# Altium schematic symbol library ML605Library.SCHLIB: 148 symbols (part 1 of 2)
Pins are listed as number, name and electrical type; pins without a type are passive.

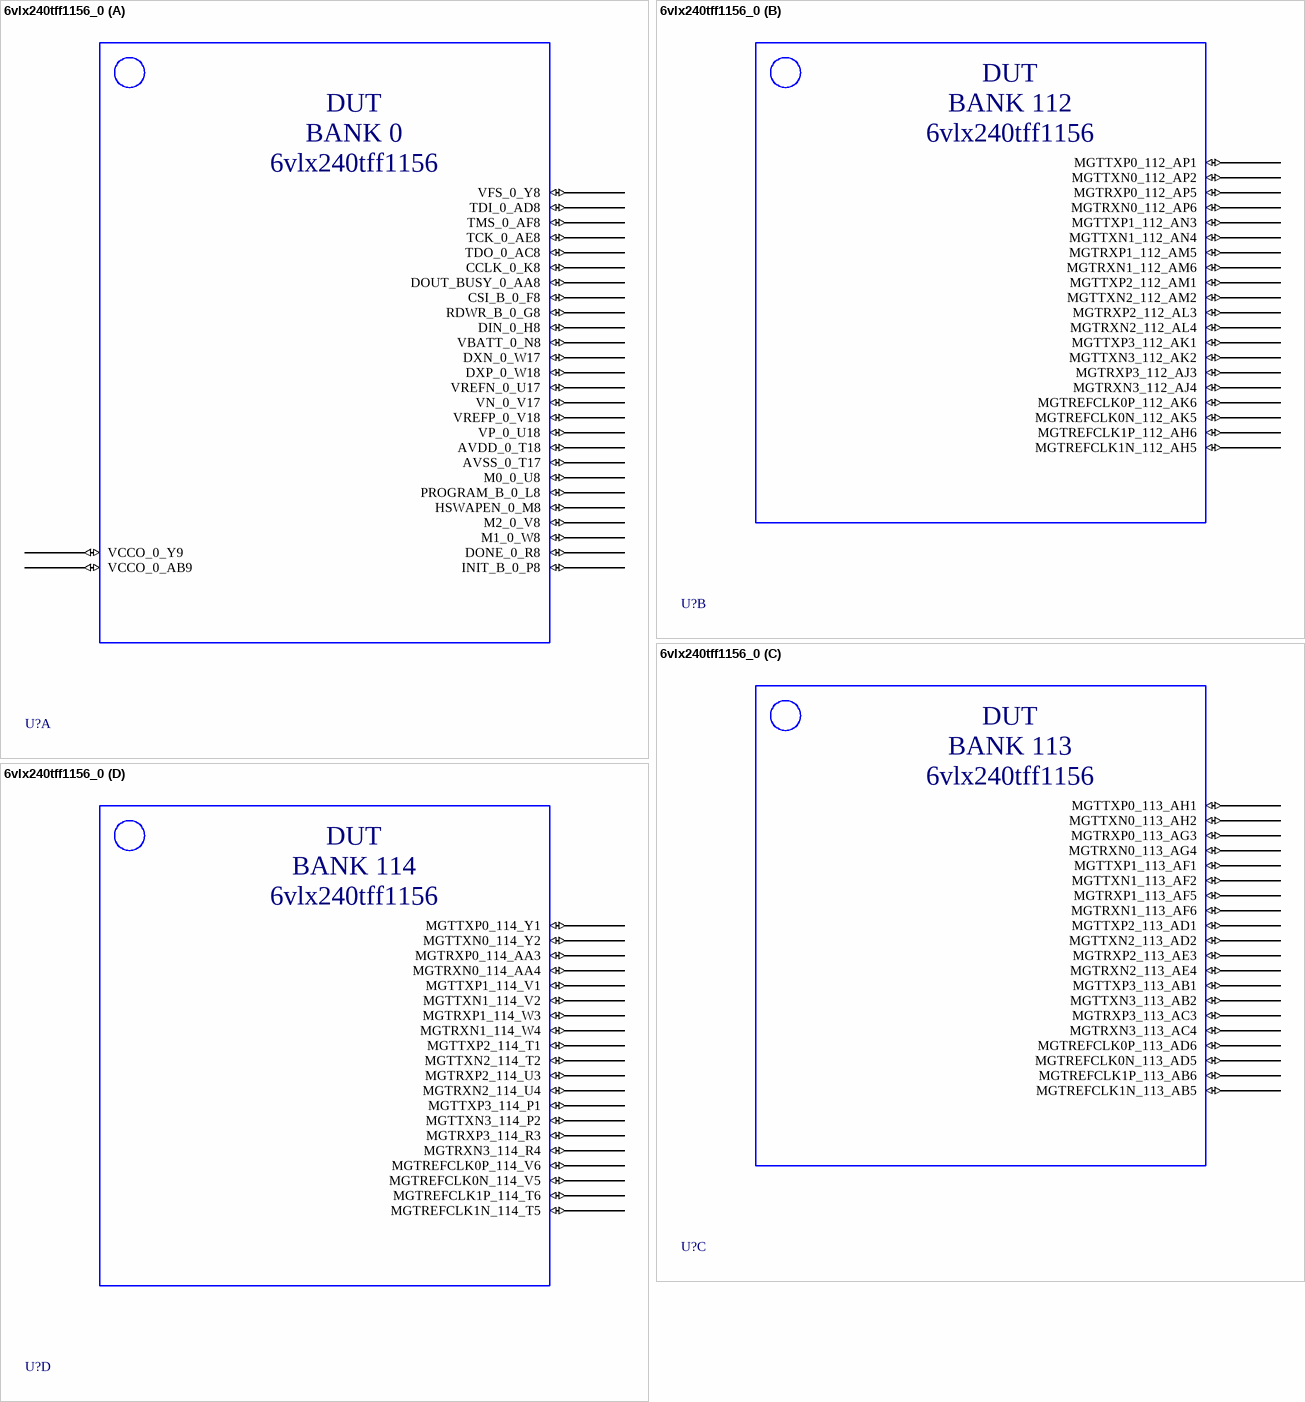
[diagram p0: symbol 6vlx240tff1156_0]

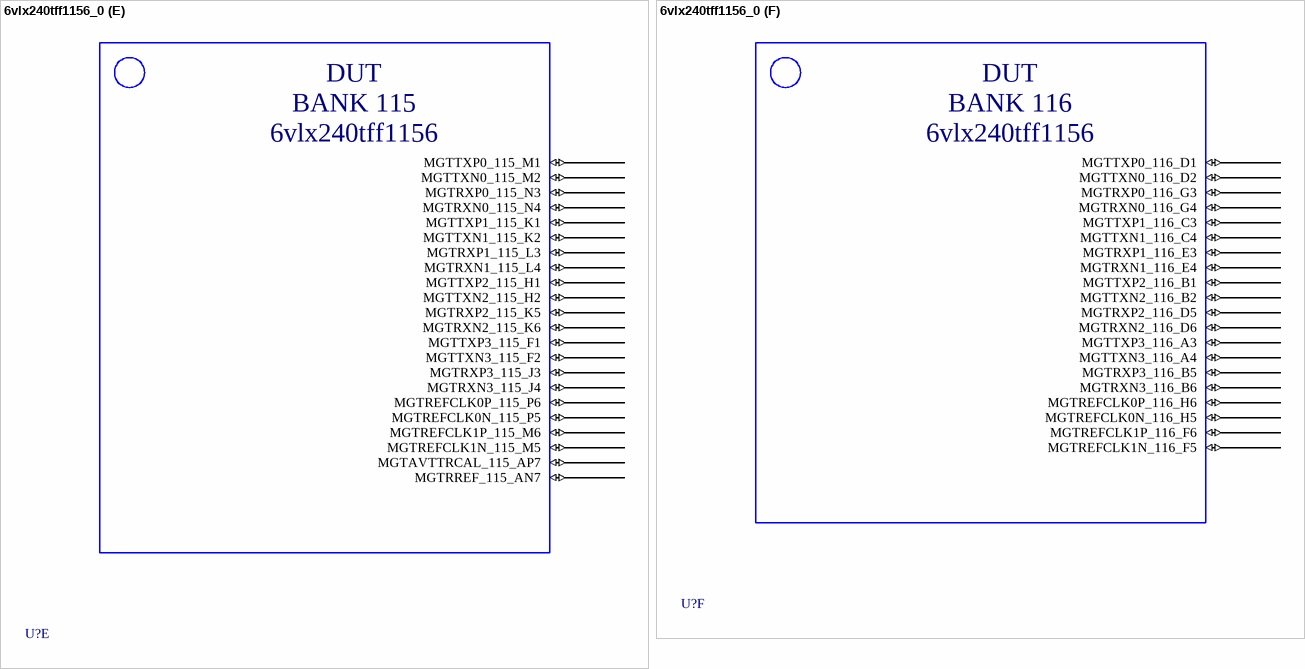
[diagram p1: symbol 6vlx240tff1156_0]

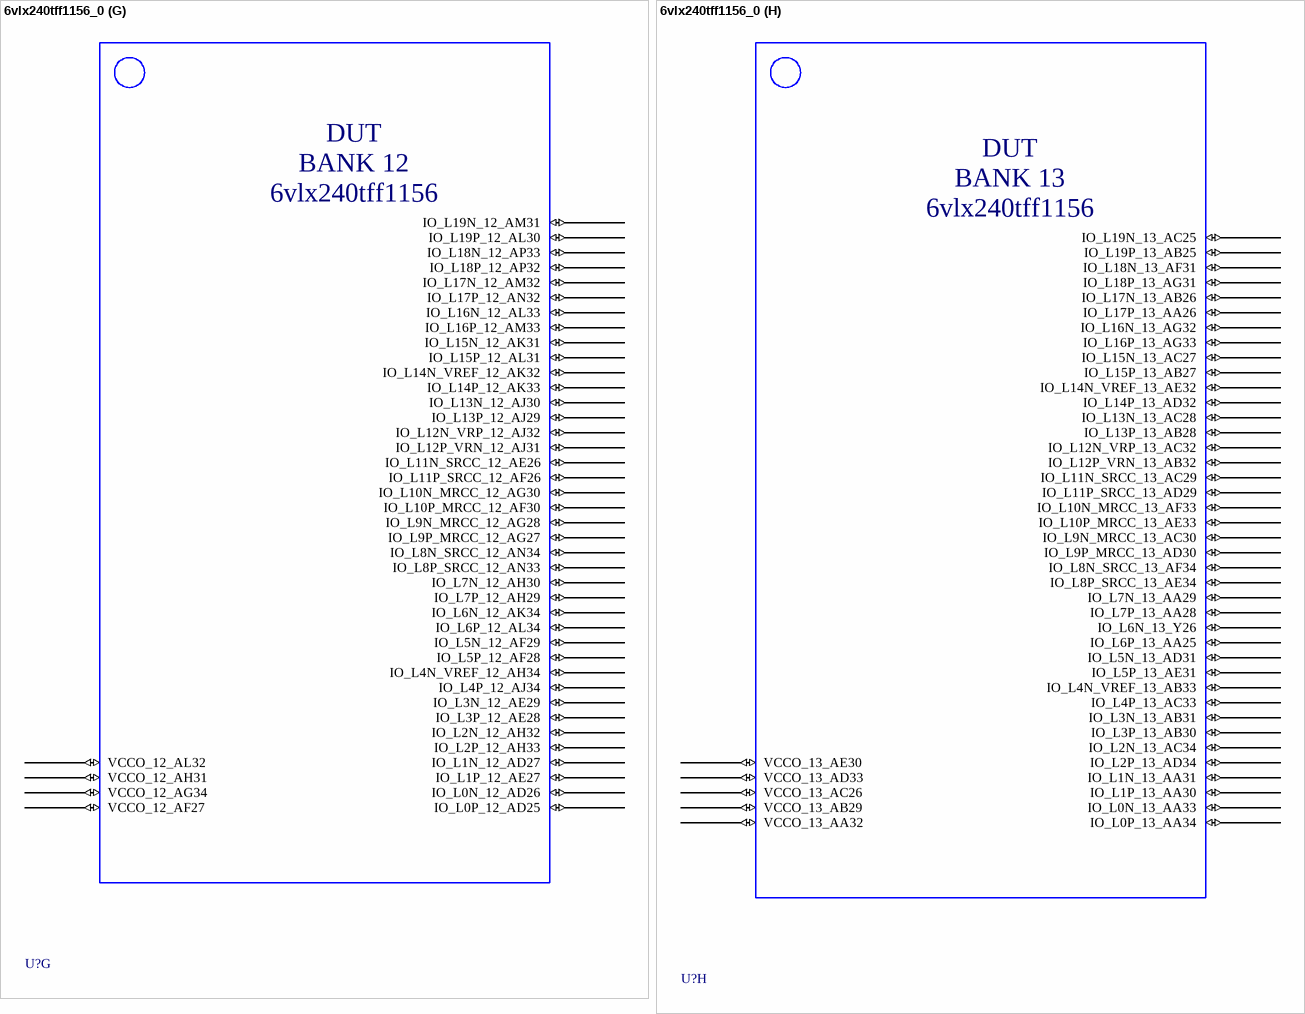
[diagram p2: symbol 6vlx240tff1156_0]

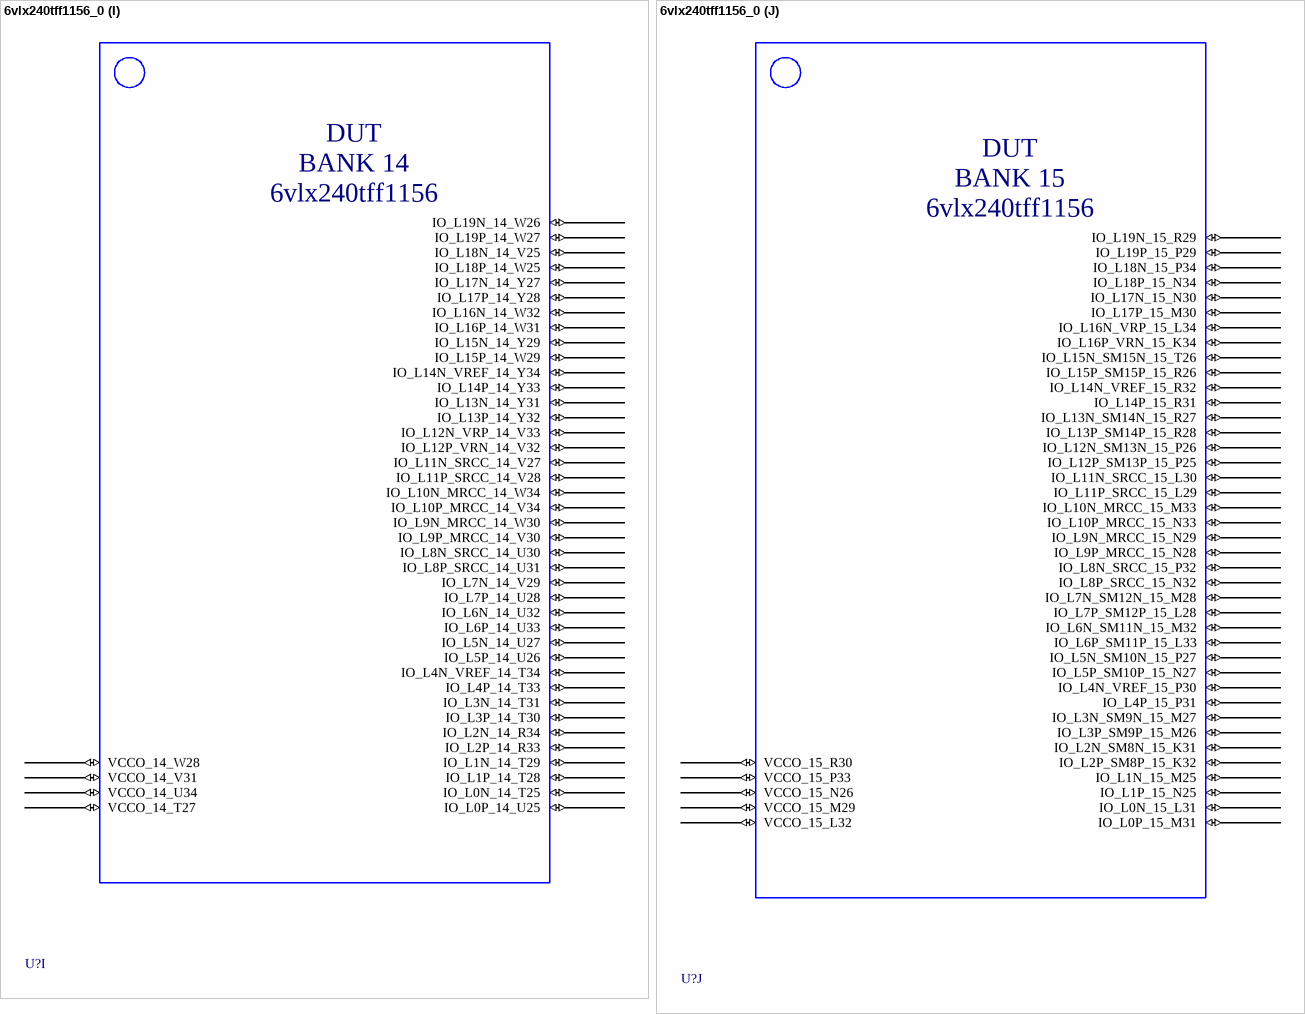
[diagram p3: symbol 6vlx240tff1156_0]

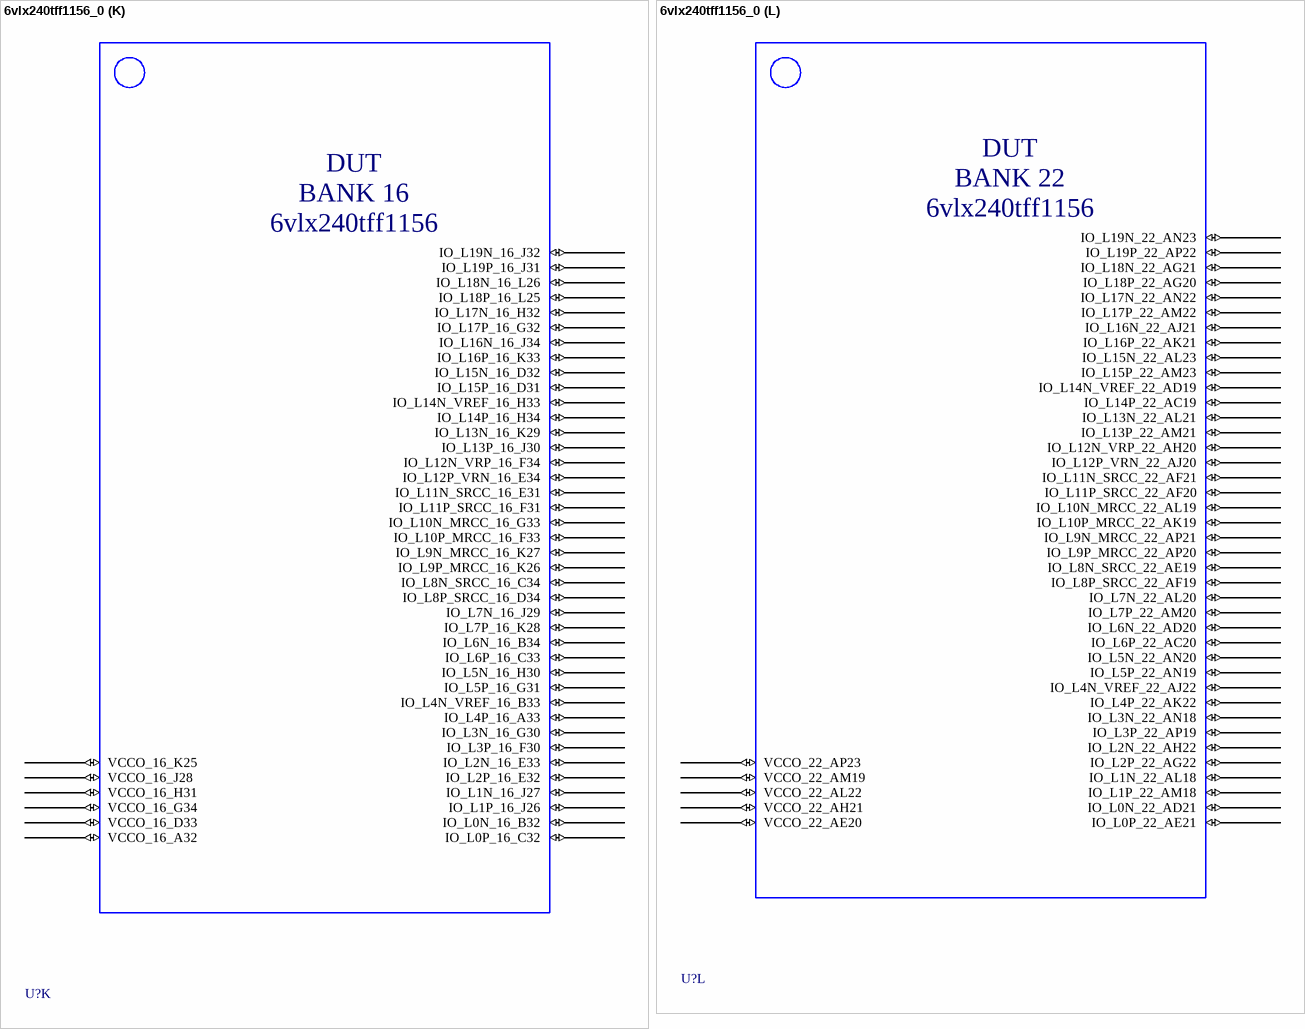
[diagram p4: symbol 6vlx240tff1156_0]

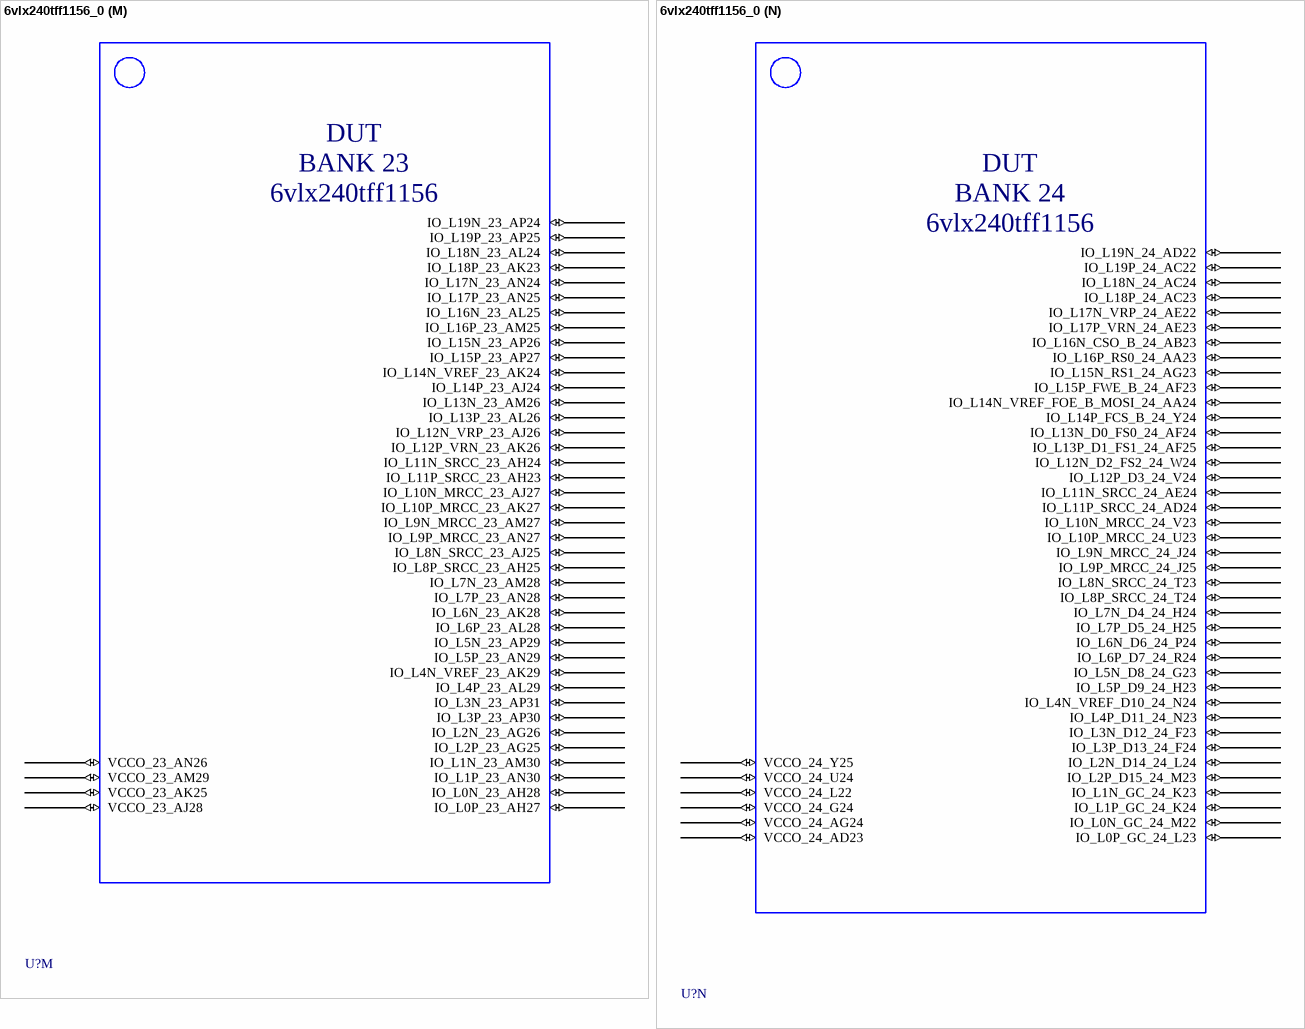
[diagram p5: symbol 6vlx240tff1156_0]

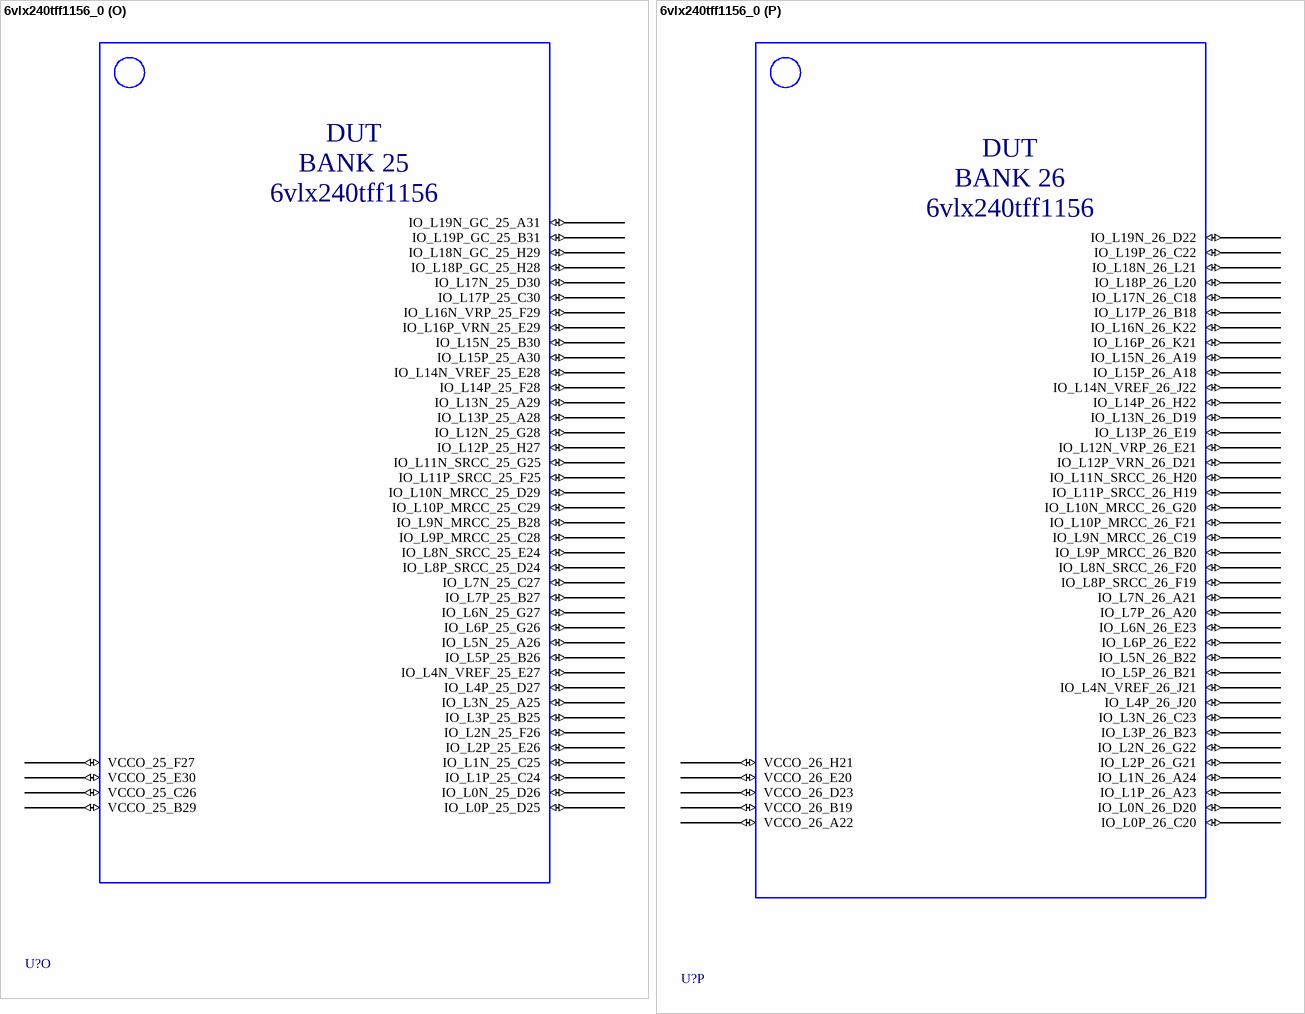
[diagram p6: symbol 6vlx240tff1156_0]

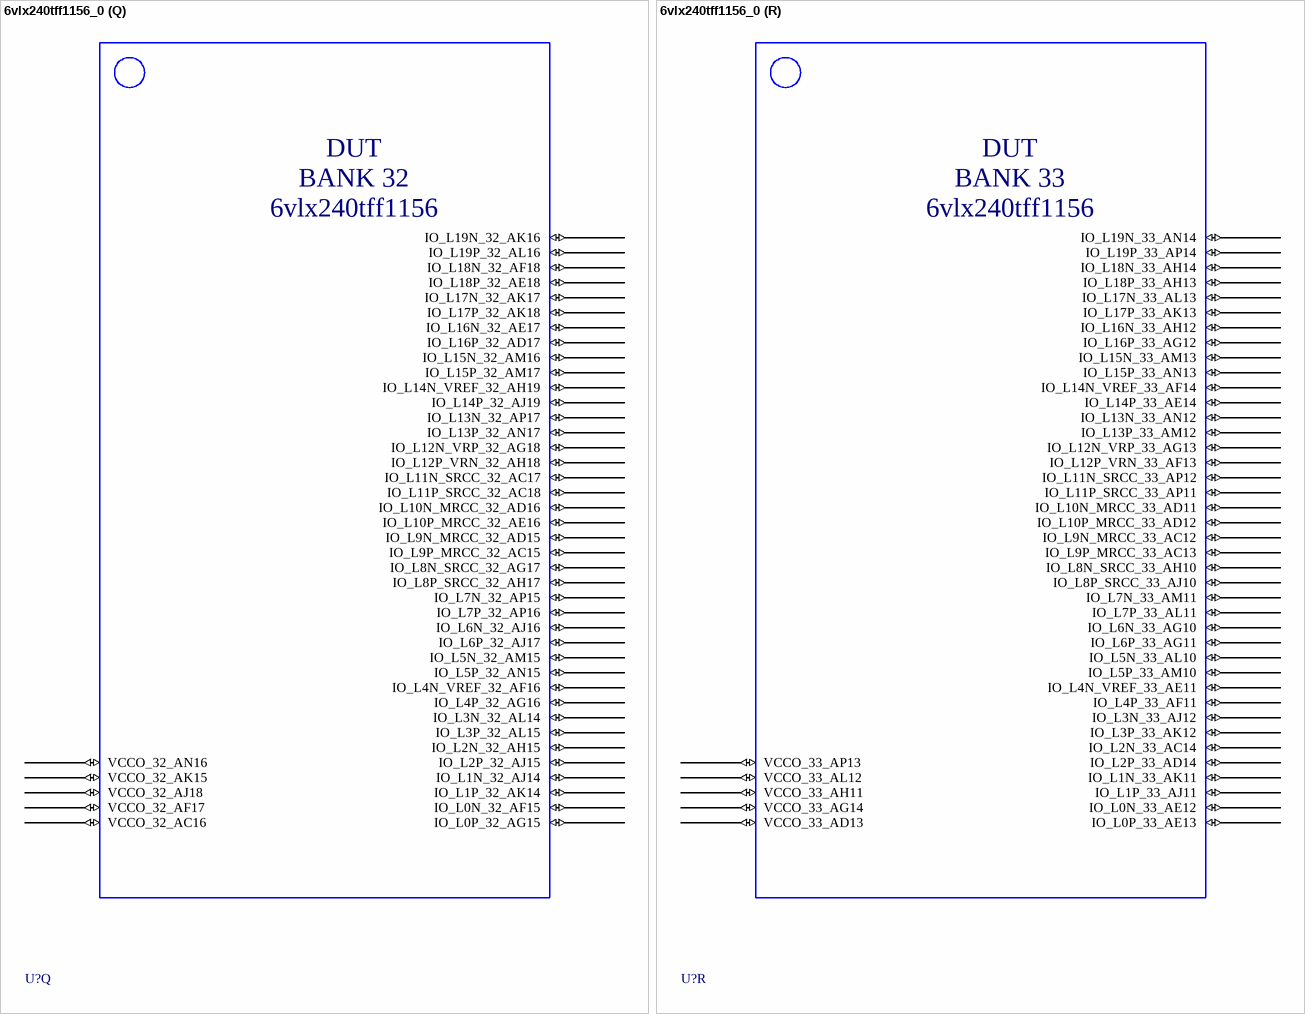
[diagram p7: symbol 6vlx240tff1156_0]

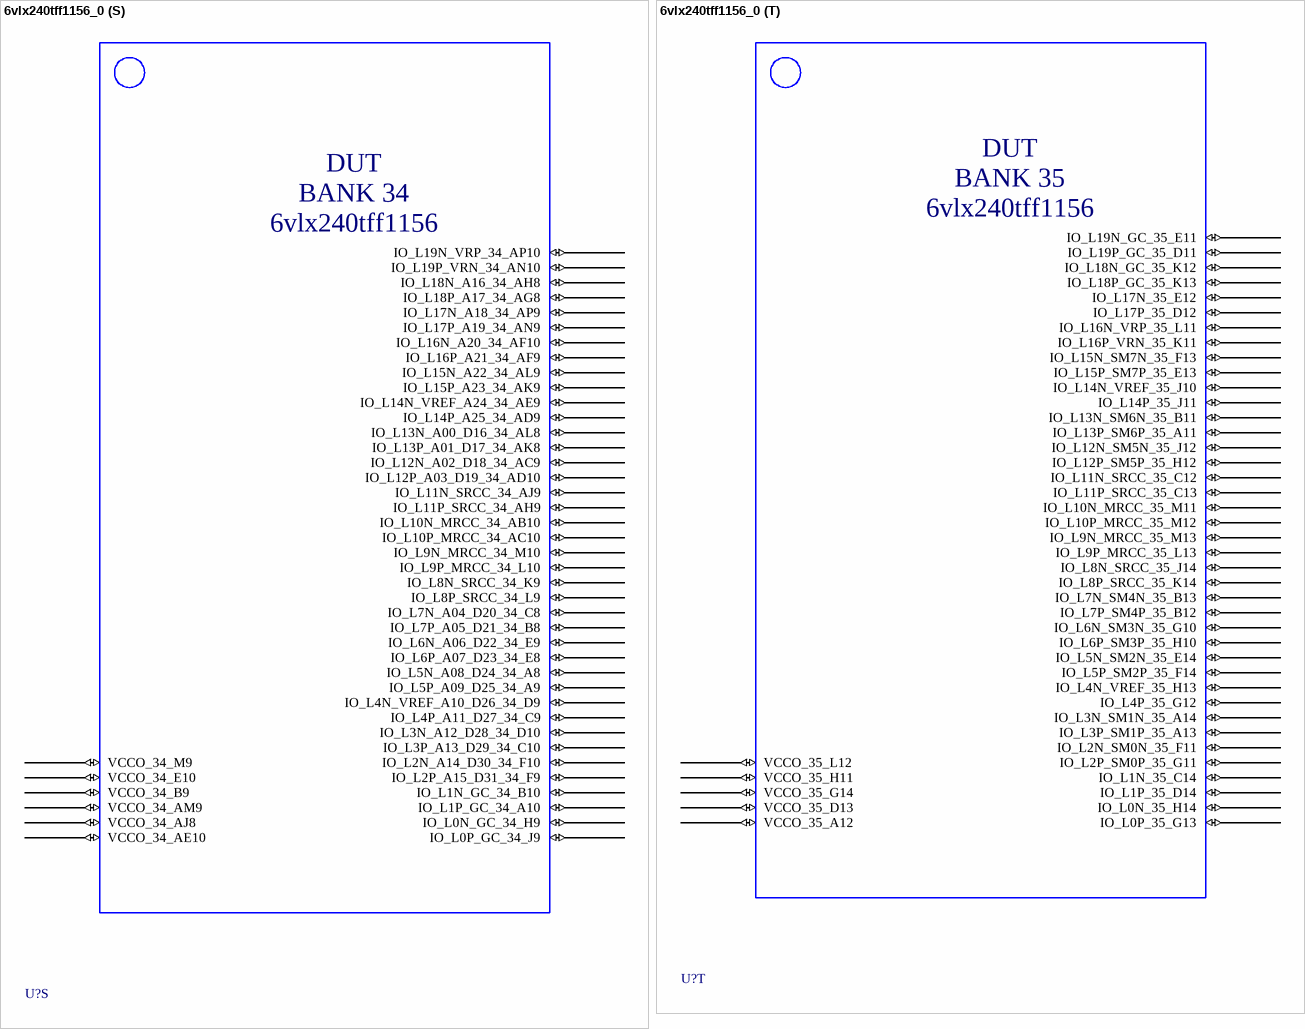
[diagram p8: symbol 6vlx240tff1156_0]

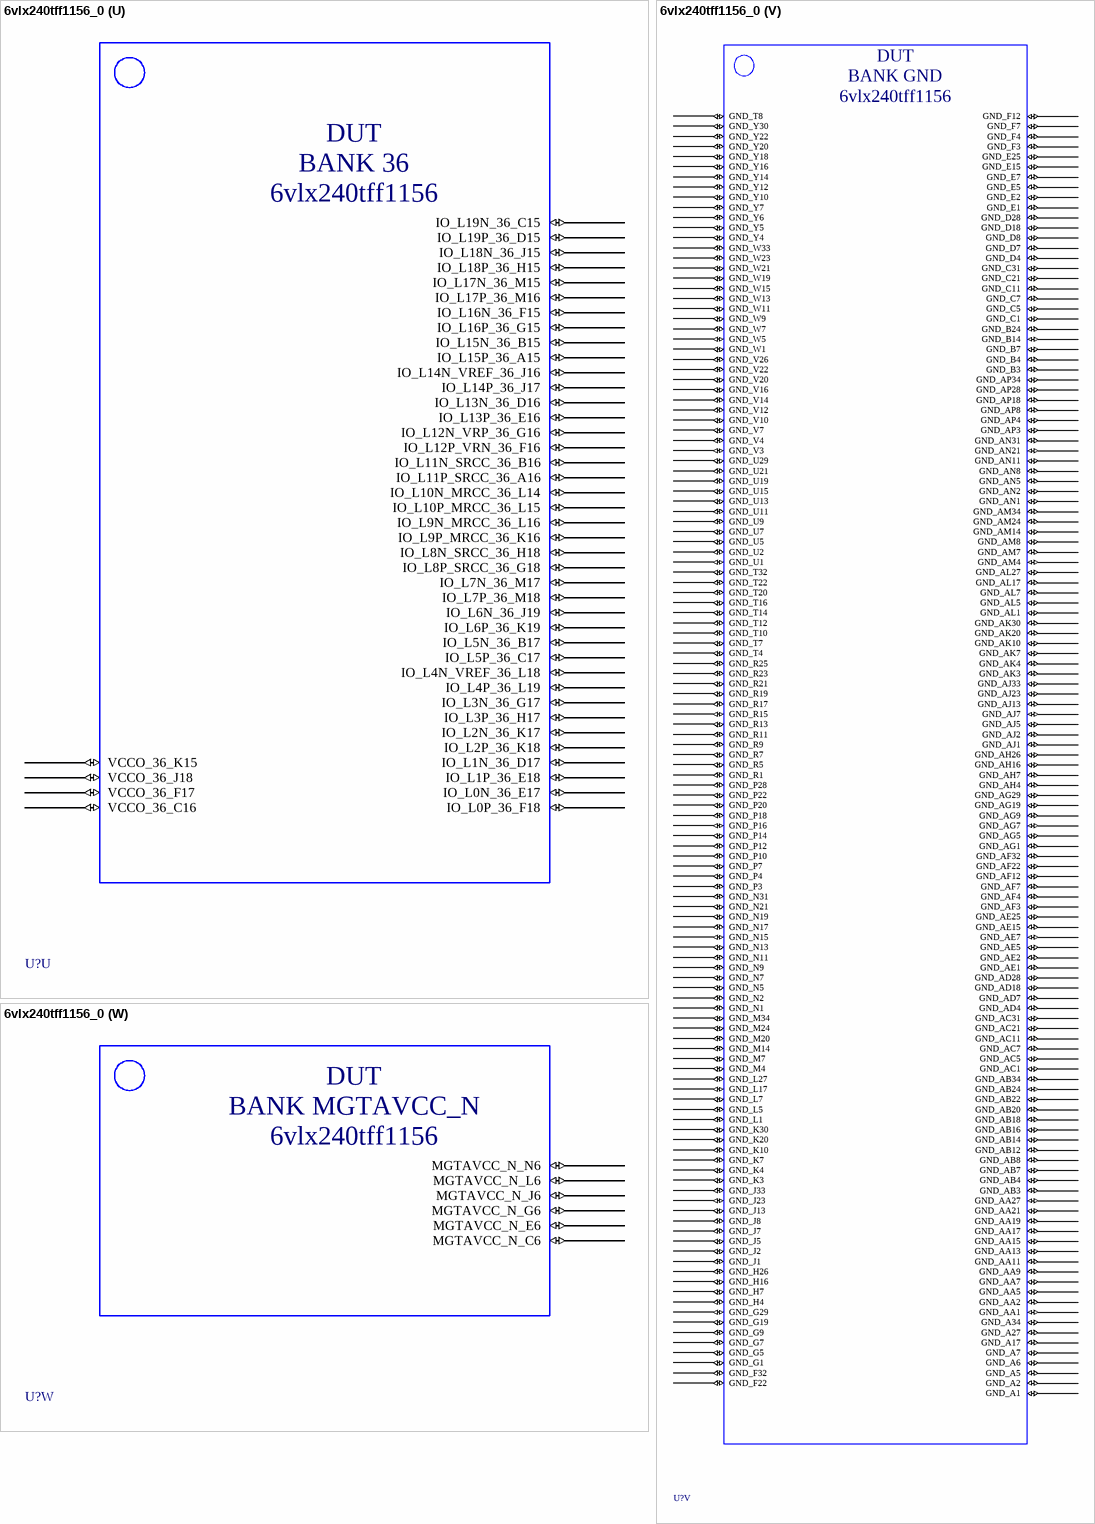
[diagram p9: symbol 6vlx240tff1156_0]

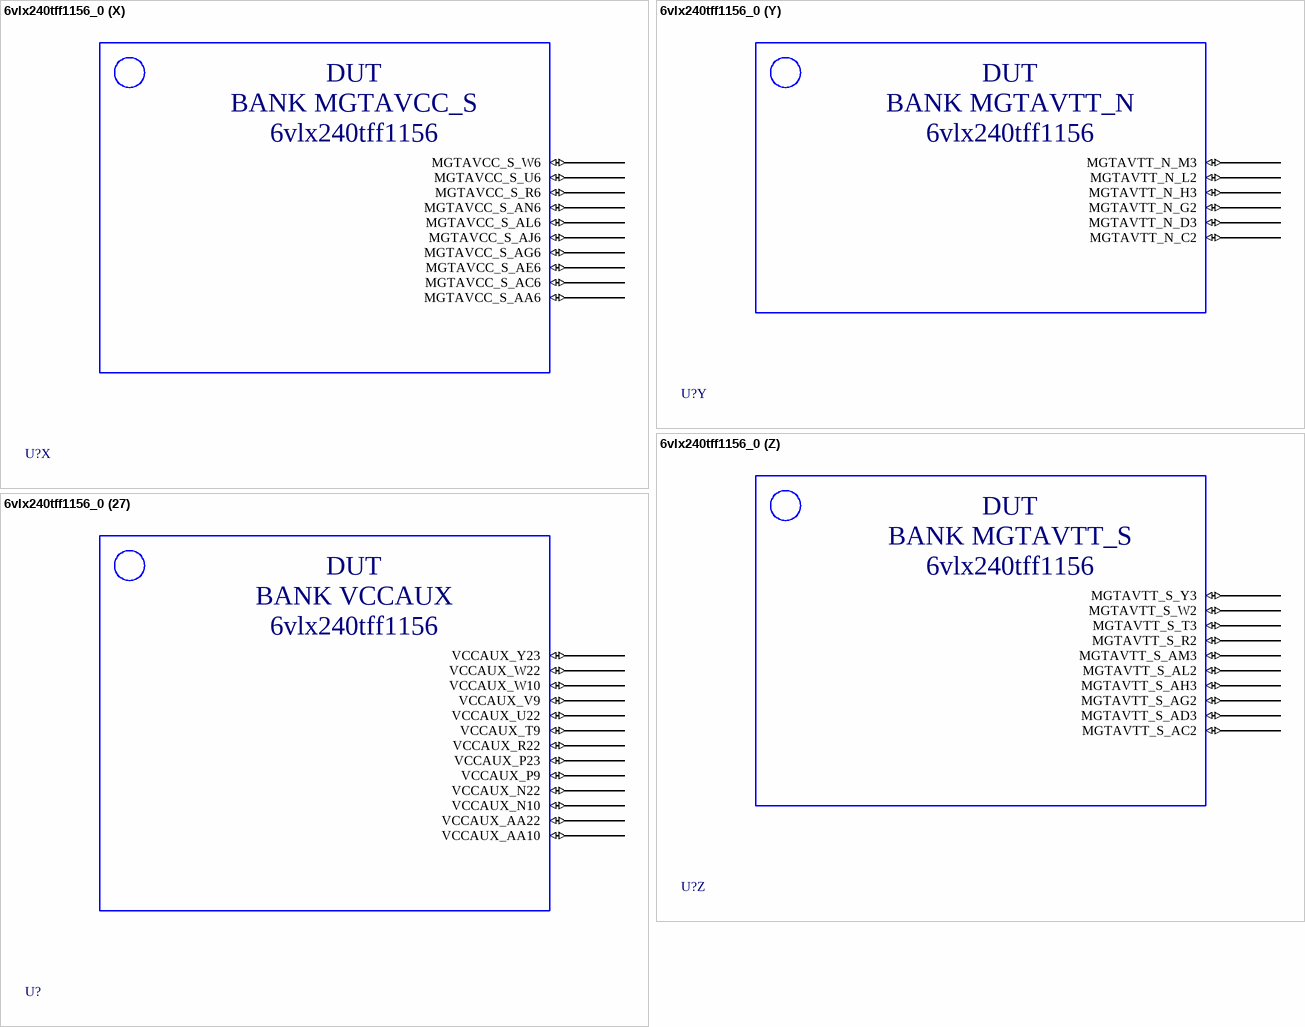
[diagram p10: symbol 6vlx240tff1156_0]

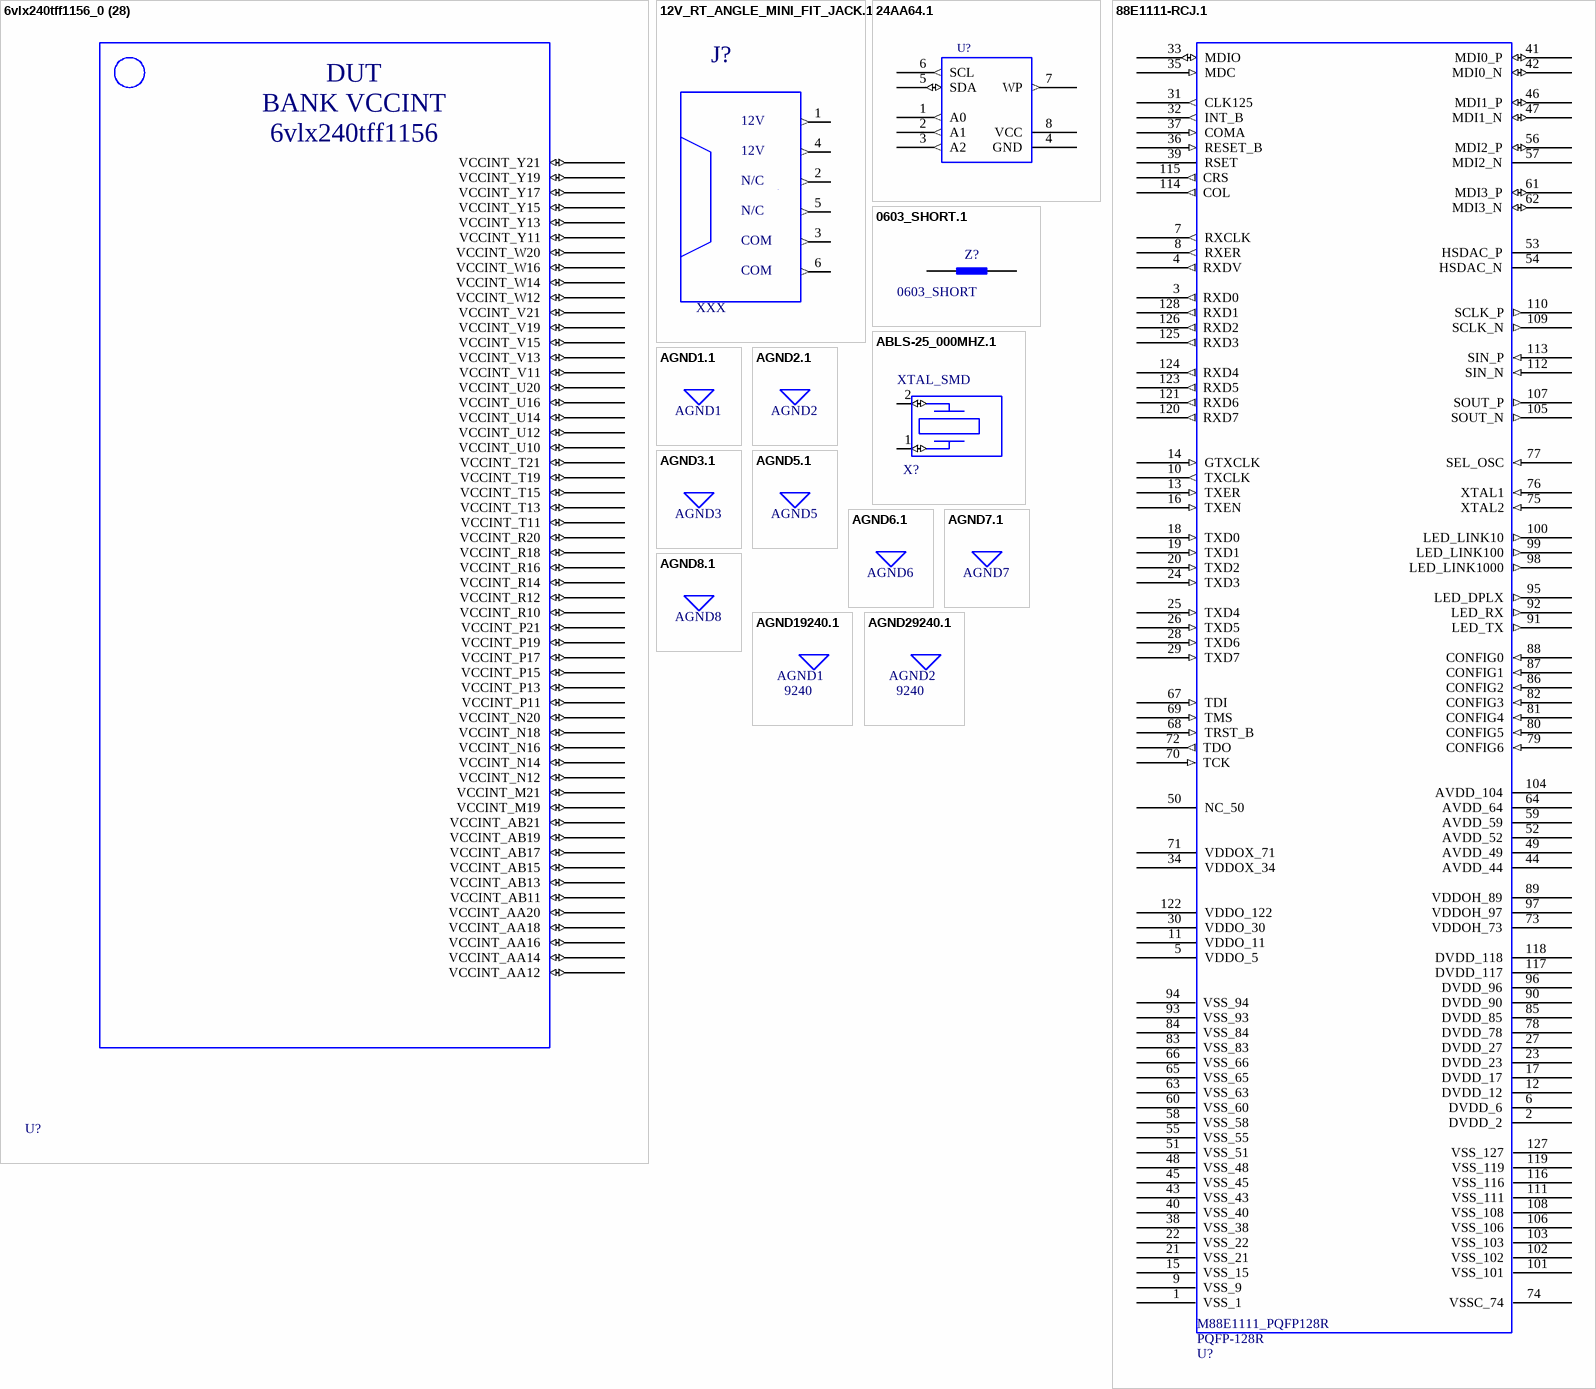
[diagram p11: symbols 6vlx240tff1156_0 to AGND29240.1]

## 6vlx240tff1156_0
designator U?, comment FG1156_SOCK  (value not drawn)
FG1156 SOCKET; PART_TYPE: PROG. LOGIC; LEVEL: STD; BUILD: ALL; MANF_P/N: NEED; MANF: ANTARES; DXDB_LIBNAME: IC; VALUE: 6vlx240tff1156; DEVICE: FG1156_SOCK; PKG_TYPE: FG1156; DATASHEET: NEED; DIST_P/N: NEED; DIST: ANTARES; PRICE: 0.0; ROHS: YES
part A pins: AA8 DOUT_BUSY_0_AA8 (io), AB9 VCCO_0_AB9 (io), AC8 TDO_0_AC8 (io), AD8 TDI_0_AD8 (io), AE8 TCK_0_AE8 (io), AF8 TMS_0_AF8 (io), F8 CSI_B_0_F8 (io), G8 RDWR_B_0_G8 (io), H8 DIN_0_H8 (io), K8 CCLK_0_K8 (io), L8 PROGRAM_B_0_L8 (io), M8 HSWAPEN_0_M8 (io), N8 VBATT_0_N8 (io), P8 INIT_B_0_P8 (io), R8 DONE_0_R8 (io), T17 AVSS_0_T17 (io), T18 AVDD_0_T18 (io), U8 M0_0_U8 (io), U17 VREFN_0_U17 (io), U18 VP_0_U18 (io), V8 M2_0_V8 (io), V17 VN_0_V17 (io), V18 VREFP_0_V18 (io), W8 M1_0_W8 (io), W17 DXN_0_W17 (io), W18 DXP_0_W18 (io), Y8 VFS_0_Y8 (io), Y9 VCCO_0_Y9 (io)
part B pins: AH5 MGTREFCLK1N_112_AH5 (io), AH6 MGTREFCLK1P_112_AH6 (io), AJ3 MGTRXP3_112_AJ3 (io), AJ4 MGTRXN3_112_AJ4 (io), AK1 MGTTXP3_112_AK1 (io), AK2 MGTTXN3_112_AK2 (io), AK5 MGTREFCLK0N_112_AK5 (io), AK6 MGTREFCLK0P_112_AK6 (io), AL3 MGTRXP2_112_AL3 (io), AL4 MGTRXN2_112_AL4 (io), AM1 MGTTXP2_112_AM1 (io), AM2 MGTTXN2_112_AM2 (io), AM5 MGTRXP1_112_AM5 (io), AM6 MGTRXN1_112_AM6 (io), AN3 MGTTXP1_112_AN3 (io), AN4 MGTTXN1_112_AN4 (io), AP1 MGTTXP0_112_AP1 (io), AP2 MGTTXN0_112_AP2 (io), AP5 MGTRXP0_112_AP5 (io), AP6 MGTRXN0_112_AP6 (io)
part C pins: AB1 MGTTXP3_113_AB1 (io), AB2 MGTTXN3_113_AB2 (io), AB5 MGTREFCLK1N_113_AB5 (io), AB6 MGTREFCLK1P_113_AB6 (io), AC3 MGTRXP3_113_AC3 (io), AC4 MGTRXN3_113_AC4 (io), AD1 MGTTXP2_113_AD1 (io), AD2 MGTTXN2_113_AD2 (io), AD5 MGTREFCLK0N_113_AD5 (io), AD6 MGTREFCLK0P_113_AD6 (io), AE3 MGTRXP2_113_AE3 (io), AE4 MGTRXN2_113_AE4 (io), AF1 MGTTXP1_113_AF1 (io), AF2 MGTTXN1_113_AF2 (io), AF5 MGTRXP1_113_AF5 (io), AF6 MGTRXN1_113_AF6 (io), AG3 MGTRXP0_113_AG3 (io), AG4 MGTRXN0_113_AG4 (io), AH1 MGTTXP0_113_AH1 (io), AH2 MGTTXN0_113_AH2 (io)
part D pins: AA3 MGTRXP0_114_AA3 (io), AA4 MGTRXN0_114_AA4 (io), P1 MGTTXP3_114_P1 (io), P2 MGTTXN3_114_P2 (io), R3 MGTRXP3_114_R3 (io), R4 MGTRXN3_114_R4 (io), T1 MGTTXP2_114_T1 (io), T2 MGTTXN2_114_T2 (io), T5 MGTREFCLK1N_114_T5 (io), T6 MGTREFCLK1P_114_T6 (io), U3 MGTRXP2_114_U3 (io), U4 MGTRXN2_114_U4 (io), V1 MGTTXP1_114_V1 (io), V2 MGTTXN1_114_V2 (io), V5 MGTREFCLK0N_114_V5 (io), V6 MGTREFCLK0P_114_V6 (io), W3 MGTRXP1_114_W3 (io), W4 MGTRXN1_114_W4 (io), Y1 MGTTXP0_114_Y1 (io), Y2 MGTTXN0_114_Y2 (io)
part E pins: AN7 MGTRREF_115_AN7 (io), AP7 MGTAVTTRCAL_115_AP7 (io), F1 MGTTXP3_115_F1 (io), F2 MGTTXN3_115_F2 (io), H1 MGTTXP2_115_H1 (io), H2 MGTTXN2_115_H2 (io), J3 MGTRXP3_115_J3 (io), J4 MGTRXN3_115_J4 (io), K1 MGTTXP1_115_K1 (io), K2 MGTTXN1_115_K2 (io), K5 MGTRXP2_115_K5 (io), K6 MGTRXN2_115_K6 (io), L3 MGTRXP1_115_L3 (io), L4 MGTRXN1_115_L4 (io), M1 MGTTXP0_115_M1 (io), M2 MGTTXN0_115_M2 (io), M5 MGTREFCLK1N_115_M5 (io), M6 MGTREFCLK1P_115_M6 (io), N3 MGTRXP0_115_N3 (io), N4 MGTRXN0_115_N4 (io), P5 MGTREFCLK0N_115_P5 (io), P6 MGTREFCLK0P_115_P6 (io)
part F pins: A3 MGTTXP3_116_A3 (io), A4 MGTTXN3_116_A4 (io), B1 MGTTXP2_116_B1 (io), B2 MGTTXN2_116_B2 (io), B5 MGTRXP3_116_B5 (io), B6 MGTRXN3_116_B6 (io), C3 MGTTXP1_116_C3 (io), C4 MGTTXN1_116_C4 (io), D1 MGTTXP0_116_D1 (io), D2 MGTTXN0_116_D2 (io), D5 MGTRXP2_116_D5 (io), D6 MGTRXN2_116_D6 (io), E3 MGTRXP1_116_E3 (io), E4 MGTRXN1_116_E4 (io), F5 MGTREFCLK1N_116_F5 (io), F6 MGTREFCLK1P_116_F6 (io), G3 MGTRXP0_116_G3 (io), G4 MGTRXN0_116_G4 (io), H5 MGTREFCLK0N_116_H5 (io), H6 MGTREFCLK0P_116_H6 (io)
part G pins: AD25 IO_L0P_12_AD25 (io), AD26 IO_L0N_12_AD26 (io), AD27 IO_L1N_12_AD27 (io), AE26 IO_L11N_SRCC_12_AE26 (io), AE27 IO_L1P_12_AE27 (io), AE28 IO_L3P_12_AE28 (io), AE29 IO_L3N_12_AE29 (io), AF26 IO_L11P_SRCC_12_AF26 (io), AF27 VCCO_12_AF27 (io), AF28 IO_L5P_12_AF28 (io), AF29 IO_L5N_12_AF29 (io), AF30 IO_L10P_MRCC_12_AF30 (io), AG27 IO_L9P_MRCC_12_AG27 (io), AG28 IO_L9N_MRCC_12_AG28 (io), AG30 IO_L10N_MRCC_12_AG30 (io), AG34 VCCO_12_AG34 (io), AH29 IO_L7P_12_AH29 (io), AH30 IO_L7N_12_AH30 (io), AH31 VCCO_12_AH31 (io), AH32 IO_L2N_12_AH32 (io), AH33 IO_L2P_12_AH33 (io), AH34 IO_L4N_VREF_12_AH34 (io), AJ29 IO_L13P_12_AJ29 (io), AJ30 IO_L13N_12_AJ30 (io), AJ31 IO_L12P_VRN_12_AJ31 (io), AJ32 IO_L12N_VRP_12_AJ32 (io), AJ34 IO_L4P_12_AJ34 (io), AK31 IO_L15N_12_AK31 (io), AK32 IO_L14N_VREF_12_AK32 (io), AK33 IO_L14P_12_AK33 (io), AK34 IO_L6N_12_AK34 (io), AL30 IO_L19P_12_AL30 (io), AL31 IO_L15P_12_AL31 (io), AL32 VCCO_12_AL32 (io), AL33 IO_L16N_12_AL33 (io), AL34 IO_L6P_12_AL34 (io), AM31 IO_L19N_12_AM31 (io), AM32 IO_L17N_12_AM32 (io), AM33 IO_L16P_12_AM33 (io), AN32 IO_L17P_12_AN32 (io), AN33 IO_L8P_SRCC_12_AN33 (io), AN34 IO_L8N_SRCC_12_AN34 (io), AP32 IO_L18P_12_AP32 (io), AP33 IO_L18N_12_AP33 (io)
part H pins: AA25 IO_L6P_13_AA25 (io), AA26 IO_L17P_13_AA26 (io), AA28 IO_L7P_13_AA28 (io), AA29 IO_L7N_13_AA29 (io), AA30 IO_L1P_13_AA30 (io), AA31 IO_L1N_13_AA31 (io), AA32 VCCO_13_AA32 (io), AA33 IO_L0N_13_AA33 (io), AA34 IO_L0P_13_AA34 (io), AB25 IO_L19P_13_AB25 (io), AB26 IO_L17N_13_AB26 (io), AB27 IO_L15P_13_AB27 (io), AB28 IO_L13P_13_AB28 (io), AB29 VCCO_13_AB29 (io), AB30 IO_L3P_13_AB30 (io), AB31 IO_L3N_13_AB31 (io), AB32 IO_L12P_VRN_13_AB32 (io), AB33 IO_L4N_VREF_13_AB33 (io), AC25 IO_L19N_13_AC25 (io), AC26 VCCO_13_AC26 (io), AC27 IO_L15N_13_AC27 (io), AC28 IO_L13N_13_AC28 (io), AC29 IO_L11N_SRCC_13_AC29 (io), AC30 IO_L9N_MRCC_13_AC30 (io), AC32 IO_L12N_VRP_13_AC32 (io), AC33 IO_L4P_13_AC33 (io), AC34 IO_L2N_13_AC34 (io), AD29 IO_L11P_SRCC_13_AD29 (io), AD30 IO_L9P_MRCC_13_AD30 (io), AD31 IO_L5N_13_AD31 (io), AD32 IO_L14P_13_AD32 (io), AD33 VCCO_13_AD33 (io), AD34 IO_L2P_13_AD34 (io), AE30 VCCO_13_AE30 (io), AE31 IO_L5P_13_AE31 (io), AE32 IO_L14N_VREF_13_AE32 (io), AE33 IO_L10P_MRCC_13_AE33 (io), AE34 IO_L8P_SRCC_13_AE34 (io), AF31 IO_L18N_13_AF31 (io), AF33 IO_L10N_MRCC_13_AF33 (io), AF34 IO_L8N_SRCC_13_AF34 (io), AG31 IO_L18P_13_AG31 (io), AG32 IO_L16N_13_AG32 (io), AG33 IO_L16P_13_AG33 (io), Y26 IO_L6N_13_Y26 (io)
part I pins: R33 IO_L2P_14_R33 (io), R34 IO_L2N_14_R34 (io), T25 IO_L0N_14_T25 (io), T27 VCCO_14_T27 (io), T28 IO_L1P_14_T28 (io), T29 IO_L1N_14_T29 (io), T30 IO_L3P_14_T30 (io), T31 IO_L3N_14_T31 (io), T33 IO_L4P_14_T33 (io), T34 IO_L4N_VREF_14_T34 (io), U25 IO_L0P_14_U25 (io), U26 IO_L5P_14_U26 (io), U27 IO_L5N_14_U27 (io), U28 IO_L7P_14_U28 (io), U30 IO_L8N_SRCC_14_U30 (io), U31 IO_L8P_SRCC_14_U31 (io), U32 IO_L6N_14_U32 (io), U33 IO_L6P_14_U33 (io), U34 VCCO_14_U34 (io), V25 IO_L18N_14_V25 (io), V27 IO_L11N_SRCC_14_V27 (io), V28 IO_L11P_SRCC_14_V28 (io), V29 IO_L7N_14_V29 (io), V30 IO_L9P_MRCC_14_V30 (io), V31 VCCO_14_V31 (io), V32 IO_L12P_VRN_14_V32 (io), V33 IO_L12N_VRP_14_V33 (io), V34 IO_L10P_MRCC_14_V34 (io), W25 IO_L18P_14_W25 (io), W26 IO_L19N_14_W26 (io), W27 IO_L19P_14_W27 (io), W28 VCCO_14_W28 (io), W29 IO_L15P_14_W29 (io), W30 IO_L9N_MRCC_14_W30 (io), W31 IO_L16P_14_W31 (io), W32 IO_L16N_14_W32 (io), W34 IO_L10N_MRCC_14_W34 (io), Y27 IO_L17N_14_Y27 (io), Y28 IO_L17P_14_Y28 (io), Y29 IO_L15N_14_Y29 (io), Y31 IO_L13N_14_Y31 (io), Y32 IO_L13P_14_Y32 (io), Y33 IO_L14P_14_Y33 (io), Y34 IO_L14N_VREF_14_Y34 (io)
part J pins: K31 IO_L2N_SM8N_15_K31 (io), K32 IO_L2P_SM8P_15_K32 (io), K34 IO_L16P_VRN_15_K34 (io), L28 IO_L7P_SM12P_15_L28 (io), L29 IO_L11P_SRCC_15_L29 (io), L30 IO_L11N_SRCC_15_L30 (io), L31 IO_L0N_15_L31 (io), L32 VCCO_15_L32 (io), L33 IO_L6P_SM11P_15_L33 (io), L34 IO_L16N_VRP_15_L34 (io), M25 IO_L1N_15_M25 (io), M26 IO_L3P_SM9P_15_M26 (io), M27 IO_L3N_SM9N_15_M27 (io), M28 IO_L7N_SM12N_15_M28 (io), M29 VCCO_15_M29 (io), M30 IO_L17P_15_M30 (io), M31 IO_L0P_15_M31 (io), M32 IO_L6N_SM11N_15_M32 (io), M33 IO_L10N_MRCC_15_M33 (io), N25 IO_L1P_15_N25 (io), N26 VCCO_15_N26 (io), N27 IO_L5P_SM10P_15_N27 (io), N28 IO_L9P_MRCC_15_N28 (io), N29 IO_L9N_MRCC_15_N29 (io), N30 IO_L17N_15_N30 (io), N32 IO_L8P_SRCC_15_N32 (io), N33 IO_L10P_MRCC_15_N33 (io), N34 IO_L18P_15_N34 (io), P25 IO_L12P_SM13P_15_P25 (io), P26 IO_L12N_SM13N_15_P26 (io), P27 IO_L5N_SM10N_15_P27 (io), P29 IO_L19P_15_P29 (io), P30 IO_L4N_VREF_15_P30 (io), P31 IO_L4P_15_P31 (io), P32 IO_L8N_SRCC_15_P32 (io), P33 VCCO_15_P33 (io), P34 IO_L18N_15_P34 (io), R26 IO_L15P_SM15P_15_R26 (io), R27 IO_L13N_SM14N_15_R27 (io), R28 IO_L13P_SM14P_15_R28 (io), R29 IO_L19N_15_R29 (io), R30 VCCO_15_R30 (io), R31 IO_L14P_15_R31 (io), R32 IO_L14N_VREF_15_R32 (io), T26 IO_L15N_SM15N_15_T26 (io)
part K pins: A32 VCCO_16_A32 (io), A33 IO_L4P_16_A33 (io), B32 IO_L0N_16_B32 (io), B33 IO_L4N_VREF_16_B33 (io), B34 IO_L6N_16_B34 (io), C32 IO_L0P_16_C32 (io), C33 IO_L6P_16_C33 (io), C34 IO_L8N_SRCC_16_C34 (io), D31 IO_L15P_16_D31 (io), D32 IO_L15N_16_D32 (io), D33 VCCO_16_D33 (io), D34 IO_L8P_SRCC_16_D34 (io), E31 IO_L11N_SRCC_16_E31 (io), E32 IO_L2P_16_E32 (io), E33 IO_L2N_16_E33 (io), E34 IO_L12P_VRN_16_E34 (io), F30 IO_L3P_16_F30 (io), F31 IO_L11P_SRCC_16_F31 (io), F33 IO_L10P_MRCC_16_F33 (io), F34 IO_L12N_VRP_16_F34 (io), G30 IO_L3N_16_G30 (io), G31 IO_L5P_16_G31 (io), G32 IO_L17P_16_G32 (io), G33 IO_L10N_MRCC_16_G33 (io), G34 VCCO_16_G34 (io), H30 IO_L5N_16_H30 (io), H31 VCCO_16_H31 (io), H32 IO_L17N_16_H32 (io), H33 IO_L14N_VREF_16_H33 (io), H34 IO_L14P_16_H34 (io), J26 IO_L1P_16_J26 (io), J27 IO_L1N_16_J27 (io), J28 VCCO_16_J28 (io), J29 IO_L7N_16_J29 (io), J30 IO_L13P_16_J30 (io), J31 IO_L19P_16_J31 (io), J32 IO_L19N_16_J32 (io), J34 IO_L16N_16_J34 (io), K25 VCCO_16_K25 (io), K26 IO_L9P_MRCC_16_K26 (io), K27 IO_L9N_MRCC_16_K27 (io), K28 IO_L7P_16_K28 (io), K29 IO_L13N_16_K29 (io), K33 IO_L16P_16_K33 (io), L25 IO_L18P_16_L25 (io), L26 IO_L18N_16_L26 (io)
part L pins: AC19 IO_L14P_22_AC19 (io), AC20 IO_L6P_22_AC20 (io), AD19 IO_L14N_VREF_22_AD19 (io), AD20 IO_L6N_22_AD20 (io), AD21 IO_L0N_22_AD21 (io), AE19 IO_L8N_SRCC_22_AE19 (io), AE20 VCCO_22_AE20 (io), AE21 IO_L0P_22_AE21 (io), AF19 IO_L8P_SRCC_22_AF19 (io), AF20 IO_L11P_SRCC_22_AF20 (io), AF21 IO_L11N_SRCC_22_AF21 (io), AG20 IO_L18P_22_AG20 (io), AG21 IO_L18N_22_AG21 (io), AG22 IO_L2P_22_AG22 (io), AH20 IO_L12N_VRP_22_AH20 (io), AH21 VCCO_22_AH21 (io), AH22 IO_L2N_22_AH22 (io), AJ20 IO_L12P_VRN_22_AJ20 (io), AJ21 IO_L16N_22_AJ21 (io), AJ22 IO_L4N_VREF_22_AJ22 (io), AK19 IO_L10P_MRCC_22_AK19 (io), AK21 IO_L16P_22_AK21 (io), AK22 IO_L4P_22_AK22 (io), AL18 IO_L1N_22_AL18 (io), AL19 IO_L10N_MRCC_22_AL19 (io), AL20 IO_L7N_22_AL20 (io), AL21 IO_L13N_22_AL21 (io), AL22 VCCO_22_AL22 (io), AL23 IO_L15N_22_AL23 (io), AM18 IO_L1P_22_AM18 (io), AM19 VCCO_22_AM19 (io), AM20 IO_L7P_22_AM20 (io), AM21 IO_L13P_22_AM21 (io), AM22 IO_L17P_22_AM22 (io), AM23 IO_L15P_22_AM23 (io), AN18 IO_L3N_22_AN18 (io), AN19 IO_L5P_22_AN19 (io), AN20 IO_L5N_22_AN20 (io), AN22 IO_L17N_22_AN22 (io), AN23 IO_L19N_22_AN23 (io), AP19 IO_L3P_22_AP19 (io), AP20 IO_L9P_MRCC_22_AP20 (io), AP21 IO_L9N_MRCC_22_AP21 (io), AP22 IO_L19P_22_AP22 (io), AP23 VCCO_22_AP23 (io)
part M pins: AG25 IO_L2P_23_AG25 (io), AG26 IO_L2N_23_AG26 (io), AH23 IO_L11P_SRCC_23_AH23 (io), AH24 IO_L11N_SRCC_23_AH24 (io), AH25 IO_L8P_SRCC_23_AH25 (io), AH27 IO_L0P_23_AH27 (io), AH28 IO_L0N_23_AH28 (io), AJ24 IO_L14P_23_AJ24 (io), AJ25 IO_L8N_SRCC_23_AJ25 (io), AJ26 IO_L12N_VRP_23_AJ26 (io), AJ27 IO_L10N_MRCC_23_AJ27 (io), AJ28 VCCO_23_AJ28 (io), AK23 IO_L18P_23_AK23 (io), AK24 IO_L14N_VREF_23_AK24 (io), AK25 VCCO_23_AK25 (io), AK26 IO_L12P_VRN_23_AK26 (io), AK27 IO_L10P_MRCC_23_AK27 (io), AK28 IO_L6N_23_AK28 (io), AK29 IO_L4N_VREF_23_AK29 (io), AL24 IO_L18N_23_AL24 (io), AL25 IO_L16N_23_AL25 (io), AL26 IO_L13P_23_AL26 (io), AL28 IO_L6P_23_AL28 (io), AL29 IO_L4P_23_AL29 (io), AM25 IO_L16P_23_AM25 (io), AM26 IO_L13N_23_AM26 (io), AM27 IO_L9N_MRCC_23_AM27 (io), AM28 IO_L7N_23_AM28 (io), AM29 VCCO_23_AM29 (io), AM30 IO_L1N_23_AM30 (io), AN24 IO_L17N_23_AN24 (io), AN25 IO_L17P_23_AN25 (io), AN26 VCCO_23_AN26 (io), AN27 IO_L9P_MRCC_23_AN27 (io), AN28 IO_L7P_23_AN28 (io), AN29 IO_L5P_23_AN29 (io), AN30 IO_L1P_23_AN30 (io), AP24 IO_L19N_23_AP24 (io), AP25 IO_L19P_23_AP25 (io), AP26 IO_L15N_23_AP26 (io), AP27 IO_L15P_23_AP27 (io), AP29 IO_L5N_23_AP29 (io), AP30 IO_L3P_23_AP30 (io), AP31 IO_L3N_23_AP31 (io)
part N pins: AA23 IO_L16P_RS0_24_AA23 (io), AA24 IO_L14N_VREF_FOE_B_MOSI_24_AA24 (io), AB23 IO_L16N_CSO_B_24_AB23 (io), AC22 IO_L19P_24_AC22 (io), AC23 IO_L18P_24_AC23 (io), AC24 IO_L18N_24_AC24 (io), AD22 IO_L19N_24_AD22 (io), AD23 VCCO_24_AD23 (io), AD24 IO_L11P_SRCC_24_AD24 (io), AE22 IO_L17N_VRP_24_AE22 (io), AE23 IO_L17P_VRN_24_AE23 (io), AE24 IO_L11N_SRCC_24_AE24 (io), AF23 IO_L15P_FWE_B_24_AF23 (io), AF24 IO_L13N_D0_FS0_24_AF24 (io), AF25 IO_L13P_D1_FS1_24_AF25 (io), AG23 IO_L15N_RS1_24_AG23 (io), AG24 VCCO_24_AG24 (io), F23 IO_L3N_D12_24_F23 (io), F24 IO_L3P_D13_24_F24 (io), G23 IO_L5N_D8_24_G23 (io), G24 VCCO_24_G24 (io), H23 IO_L5P_D9_24_H23 (io), H24 IO_L7N_D4_24_H24 (io), H25 IO_L7P_D5_24_H25 (io), J24 IO_L9N_MRCC_24_J24 (io), J25 IO_L9P_MRCC_24_J25 (io), K23 IO_L1N_GC_24_K23 (io), K24 IO_L1P_GC_24_K24 (io), L22 VCCO_24_L22 (io), L23 IO_L0P_GC_24_L23 (io), L24 IO_L2N_D14_24_L24 (io), M22 IO_L0N_GC_24_M22 (io), M23 IO_L2P_D15_24_M23 (io), N23 IO_L4P_D11_24_N23 (io), N24 IO_L4N_VREF_D10_24_N24 (io), P24 IO_L6N_D6_24_P24 (io), R24 IO_L6P_D7_24_R24 (io), T23 IO_L8N_SRCC_24_T23 (io), T24 IO_L8P_SRCC_24_T24 (io), U23 IO_L10P_MRCC_24_U23 (io), U24 VCCO_24_U24 (io), V23 IO_L10N_MRCC_24_V23 (io), V24 IO_L12P_D3_24_V24 (io), W24 IO_L12N_D2_FS2_24_W24 (io), Y24 IO_L14P_FCS_B_24_Y24 (io), Y25 VCCO_24_Y25 (io)
part O pins: A25 IO_L3N_25_A25 (io), A26 IO_L5N_25_A26 (io), A28 IO_L13P_25_A28 (io), A29 IO_L13N_25_A29 (io), A30 IO_L15P_25_A30 (io), A31 IO_L19N_GC_25_A31 (io), B25 IO_L3P_25_B25 (io), B26 IO_L5P_25_B26 (io), B27 IO_L7P_25_B27 (io), B28 IO_L9N_MRCC_25_B28 (io), B29 VCCO_25_B29 (io), B30 IO_L15N_25_B30 (io), B31 IO_L19P_GC_25_B31 (io), C24 IO_L1P_25_C24 (io), C25 IO_L1N_25_C25 (io), C26 VCCO_25_C26 (io), C27 IO_L7N_25_C27 (io), C28 IO_L9P_MRCC_25_C28 (io), C29 IO_L10P_MRCC_25_C29 (io), C30 IO_L17P_25_C30 (io), D24 IO_L8P_SRCC_25_D24 (io), D25 IO_L0P_25_D25 (io), D26 IO_L0N_25_D26 (io), D27 IO_L4P_25_D27 (io), D29 IO_L10N_MRCC_25_D29 (io), D30 IO_L17N_25_D30 (io), E24 IO_L8N_SRCC_25_E24 (io), E26 IO_L2P_25_E26 (io), E27 IO_L4N_VREF_25_E27 (io), E28 IO_L14N_VREF_25_E28 (io), E29 IO_L16P_VRN_25_E29 (io), E30 VCCO_25_E30 (io), F25 IO_L11P_SRCC_25_F25 (io), F26 IO_L2N_25_F26 (io), F27 VCCO_25_F27 (io), F28 IO_L14P_25_F28 (io), F29 IO_L16N_VRP_25_F29 (io), G25 IO_L11N_SRCC_25_G25 (io), G26 IO_L6P_25_G26 (io), G27 IO_L6N_25_G27 (io), G28 IO_L12N_25_G28 (io), H27 IO_L12P_25_H27 (io), H28 IO_L18P_GC_25_H28 (io), H29 IO_L18N_GC_25_H29 (io)
part P pins: A18 IO_L15P_26_A18 (io), A19 IO_L15N_26_A19 (io), A20 IO_L7P_26_A20 (io), A21 IO_L7N_26_A21 (io), A22 VCCO_26_A22 (io), A23 IO_L1P_26_A23 (io), A24 IO_L1N_26_A24 (io), B18 IO_L17P_26_B18 (io), B19 VCCO_26_B19 (io), B20 IO_L9P_MRCC_26_B20 (io), B21 IO_L5P_26_B21 (io), B22 IO_L5N_26_B22 (io), B23 IO_L3P_26_B23 (io), C18 IO_L17N_26_C18 (io), C19 IO_L9N_MRCC_26_C19 (io), C20 IO_L0P_26_C20 (io), C22 IO_L19P_26_C22 (io), C23 IO_L3N_26_C23 (io), D19 IO_L13N_26_D19 (io), D20 IO_L0N_26_D20 (io), D21 IO_L12P_VRN_26_D21 (io), D22 IO_L19N_26_D22 (io), D23 VCCO_26_D23 (io), E19 IO_L13P_26_E19 (io), E20 VCCO_26_E20 (io), E21 IO_L12N_VRP_26_E21 (io), E22 IO_L6P_26_E22 (io), E23 IO_L6N_26_E23 (io), F19 IO_L8P_SRCC_26_F19 (io), F20 IO_L8N_SRCC_26_F20 (io), F21 IO_L10P_MRCC_26_F21 (io), G20 IO_L10N_MRCC_26_G20 (io), G21 IO_L2P_26_G21 (io), G22 IO_L2N_26_G22 (io), H19 IO_L11P_SRCC_26_H19 (io), H20 IO_L11N_SRCC_26_H20 (io), H21 VCCO_26_H21 (io), H22 IO_L14P_26_H22 (io), J20 IO_L4P_26_J20 (io), J21 IO_L4N_VREF_26_J21 (io), J22 IO_L14N_VREF_26_J22 (io), K21 IO_L16P_26_K21 (io), K22 IO_L16N_26_K22 (io), L20 IO_L18P_26_L20 (io), L21 IO_L18N_26_L21 (io)
part Q pins: AC15 IO_L9P_MRCC_32_AC15 (io), AC16 VCCO_32_AC16 (io), AC17 IO_L11N_SRCC_32_AC17 (io), AC18 IO_L11P_SRCC_32_AC18 (io), AD15 IO_L9N_MRCC_32_AD15 (io), AD16 IO_L10N_MRCC_32_AD16 (io), AD17 IO_L16P_32_AD17 (io), AE16 IO_L10P_MRCC_32_AE16 (io), AE17 IO_L16N_32_AE17 (io), AE18 IO_L18P_32_AE18 (io), AF15 IO_L0N_32_AF15 (io), AF16 IO_L4N_VREF_32_AF16 (io), AF17 VCCO_32_AF17 (io), AF18 IO_L18N_32_AF18 (io), AG15 IO_L0P_32_AG15 (io), AG16 IO_L4P_32_AG16 (io), AG17 IO_L8N_SRCC_32_AG17 (io), AG18 IO_L12N_VRP_32_AG18 (io), AH15 IO_L2N_32_AH15 (io), AH17 IO_L8P_SRCC_32_AH17 (io), AH18 IO_L12P_VRN_32_AH18 (io), AH19 IO_L14N_VREF_32_AH19 (io), AJ14 IO_L1N_32_AJ14 (io), AJ15 IO_L2P_32_AJ15 (io), AJ16 IO_L6N_32_AJ16 (io), AJ17 IO_L6P_32_AJ17 (io), AJ18 VCCO_32_AJ18 (io), AJ19 IO_L14P_32_AJ19 (io), AK14 IO_L1P_32_AK14 (io), AK15 VCCO_32_AK15 (io), AK16 IO_L19N_32_AK16 (io), AK17 IO_L17N_32_AK17 (io), AK18 IO_L17P_32_AK18 (io), AL14 IO_L3N_32_AL14 (io), AL15 IO_L3P_32_AL15 (io), AL16 IO_L19P_32_AL16 (io), AM15 IO_L5N_32_AM15 (io), AM16 IO_L15N_32_AM16 (io), AM17 IO_L15P_32_AM17 (io), AN15 IO_L5P_32_AN15 (io), AN16 VCCO_32_AN16 (io), AN17 IO_L13P_32_AN17 (io), AP15 IO_L7N_32_AP15 (io), AP16 IO_L7P_32_AP16 (io), AP17 IO_L13N_32_AP17 (io)
part R pins: AC12 IO_L9N_MRCC_33_AC12 (io), AC13 IO_L9P_MRCC_33_AC13 (io), AC14 IO_L2N_33_AC14 (io), AD11 IO_L10N_MRCC_33_AD11 (io), AD12 IO_L10P_MRCC_33_AD12 (io), AD13 VCCO_33_AD13 (io), AD14 IO_L2P_33_AD14 (io), AE11 IO_L4N_VREF_33_AE11 (io), AE12 IO_L0N_33_AE12 (io), AE13 IO_L0P_33_AE13 (io), AE14 IO_L14P_33_AE14 (io), AF11 IO_L4P_33_AF11 (io), AF13 IO_L12P_VRN_33_AF13 (io), AF14 IO_L14N_VREF_33_AF14 (io), AG10 IO_L6N_33_AG10 (io), AG11 IO_L6P_33_AG11 (io), AG12 IO_L16P_33_AG12 (io), AG13 IO_L12N_VRP_33_AG13 (io), AG14 VCCO_33_AG14 (io), AH10 IO_L8N_SRCC_33_AH10 (io), AH11 VCCO_33_AH11 (io), AH12 IO_L16N_33_AH12 (io), AH13 IO_L18P_33_AH13 (io), AH14 IO_L18N_33_AH14 (io), AJ10 IO_L8P_SRCC_33_AJ10 (io), AJ11 IO_L1P_33_AJ11 (io), AJ12 IO_L3N_33_AJ12 (io), AK11 IO_L1N_33_AK11 (io), AK12 IO_L3P_33_AK12 (io), AK13 IO_L17P_33_AK13 (io), AL10 IO_L5N_33_AL10 (io), AL11 IO_L7P_33_AL11 (io), AL12 VCCO_33_AL12 (io), AL13 IO_L17N_33_AL13 (io), AM10 IO_L5P_33_AM10 (io), AM11 IO_L7N_33_AM11 (io), AM12 IO_L13P_33_AM12 (io), AM13 IO_L15N_33_AM13 (io), AN12 IO_L13N_33_AN12 (io), AN13 IO_L15P_33_AN13 (io), AN14 IO_L19N_33_AN14 (io), AP11 IO_L11P_SRCC_33_AP11 (io), AP12 IO_L11N_SRCC_33_AP12 (io), AP13 VCCO_33_AP13 (io), AP14 IO_L19P_33_AP14 (io)
part S pins: A8 IO_L5N_A08_D24_34_A8 (io), A9 IO_L5P_A09_D25_34_A9 (io), A10 IO_L1P_GC_34_A10 (io), AB10 IO_L10N_MRCC_34_AB10 (io), AC9 IO_L12N_A02_D18_34_AC9 (io), AC10 IO_L10P_MRCC_34_AC10 (io), AD9 IO_L14P_A25_34_AD9 (io), AD10 IO_L12P_A03_D19_34_AD10 (io), AE9 IO_L14N_VREF_A24_34_AE9 (io), AE10 VCCO_34_AE10 (io), AF9 IO_L16P_A21_34_AF9 (io), AF10 IO_L16N_A20_34_AF10 (io), AG8 IO_L18P_A17_34_AG8 (io), AH8 IO_L18N_A16_34_AH8 (io), AH9 IO_L11P_SRCC_34_AH9 (io), AJ8 VCCO_34_AJ8 (io), AJ9 IO_L11N_SRCC_34_AJ9 (io), AK8 IO_L13P_A01_D17_34_AK8 (io), AK9 IO_L15P_A23_34_AK9 (io), AL8 IO_L13N_A00_D16_34_AL8 (io), AL9 IO_L15N_A22_34_AL9 (io), AM9 VCCO_34_AM9 (io), AN9 IO_L17P_A19_34_AN9 (io), AN10 IO_L19P_VRN_34_AN10 (io), AP9 IO_L17N_A18_34_AP9 (io), AP10 IO_L19N_VRP_34_AP10 (io), B8 IO_L7P_A05_D21_34_B8 (io), B9 VCCO_34_B9 (io), B10 IO_L1N_GC_34_B10 (io), C8 IO_L7N_A04_D20_34_C8 (io), C9 IO_L4P_A11_D27_34_C9 (io), C10 IO_L3P_A13_D29_34_C10 (io), D9 IO_L4N_VREF_A10_D26_34_D9 (io), D10 IO_L3N_A12_D28_34_D10 (io), E8 IO_L6P_A07_D23_34_E8 (io), E9 IO_L6N_A06_D22_34_E9 (io), E10 VCCO_34_E10 (io), F9 IO_L2P_A15_D31_34_F9 (io), F10 IO_L2N_A14_D30_34_F10 (io), H9 IO_L0N_GC_34_H9 (io), J9 IO_L0P_GC_34_J9 (io), K9 IO_L8N_SRCC_34_K9 (io), L9 IO_L8P_SRCC_34_L9 (io), L10 IO_L9P_MRCC_34_L10 (io), M9 VCCO_34_M9 (io), M10 IO_L9N_MRCC_34_M10 (io)
part T pins: A11 IO_L13P_SM6P_35_A11 (io), A12 VCCO_35_A12 (io), A13 IO_L3P_SM1P_35_A13 (io), A14 IO_L3N_SM1N_35_A14 (io), B11 IO_L13N_SM6N_35_B11 (io), B12 IO_L7P_SM4P_35_B12 (io), B13 IO_L7N_SM4N_35_B13 (io), C12 IO_L11N_SRCC_35_C12 (io), C13 IO_L11P_SRCC_35_C13 (io), C14 IO_L1N_35_C14 (io), D11 IO_L19P_GC_35_D11 (io), D12 IO_L17P_35_D12 (io), D13 VCCO_35_D13 (io), D14 IO_L1P_35_D14 (io), E11 IO_L19N_GC_35_E11 (io), E12 IO_L17N_35_E12 (io), E13 IO_L15P_SM7P_35_E13 (io), E14 IO_L5N_SM2N_35_E14 (io), F11 IO_L2N_SM0N_35_F11 (io), F13 IO_L15N_SM7N_35_F13 (io), F14 IO_L5P_SM2P_35_F14 (io), G10 IO_L6N_SM3N_35_G10 (io), G11 IO_L2P_SM0P_35_G11 (io), G12 IO_L4P_35_G12 (io), G13 IO_L0P_35_G13 (io), G14 VCCO_35_G14 (io), H10 IO_L6P_SM3P_35_H10 (io), H11 VCCO_35_H11 (io), H12 IO_L12P_SM5P_35_H12 (io), H13 IO_L4N_VREF_35_H13 (io), H14 IO_L0N_35_H14 (io), J10 IO_L14N_VREF_35_J10 (io), J11 IO_L14P_35_J11 (io), J12 IO_L12N_SM5N_35_J12 (io), J14 IO_L8N_SRCC_35_J14 (io), K11 IO_L16P_VRN_35_K11 (io), K12 IO_L18N_GC_35_K12 (io), K13 IO_L18P_GC_35_K13 (io), K14 IO_L8P_SRCC_35_K14 (io), L11 IO_L16N_VRP_35_L11 (io), L12 VCCO_35_L12 (io), L13 IO_L9P_MRCC_35_L13 (io), M11 IO_L10N_MRCC_35_M11 (io), M12 IO_L10P_MRCC_35_M12 (io), M13 IO_L9N_MRCC_35_M13 (io)
part U pins: A15 IO_L15P_36_A15 (io), A16 IO_L11P_SRCC_36_A16 (io), B15 IO_L15N_36_B15 (io), B16 IO_L11N_SRCC_36_B16 (io), B17 IO_L5N_36_B17 (io), C15 IO_L19N_36_C15 (io), C16 VCCO_36_C16 (io), C17 IO_L5P_36_C17 (io), D15 IO_L19P_36_D15 (io), D16 IO_L13N_36_D16 (io), D17 IO_L1N_36_D17 (io), E16 IO_L13P_36_E16 (io), E17 IO_L0N_36_E17 (io), E18 IO_L1P_36_E18 (io), F15 IO_L16N_36_F15 (io), F16 IO_L12P_VRN_36_F16 (io), F17 VCCO_36_F17 (io), F18 IO_L0P_36_F18 (io), G15 IO_L16P_36_G15 (io), G16 IO_L12N_VRP_36_G16 (io), G17 IO_L3N_36_G17 (io), G18 IO_L8P_SRCC_36_G18 (io), H15 IO_L18P_36_H15 (io), H17 IO_L3P_36_H17 (io), H18 IO_L8N_SRCC_36_H18 (io), J15 IO_L18N_36_J15 (io), J16 IO_L14N_VREF_36_J16 (io), J17 IO_L14P_36_J17 (io), J18 VCCO_36_J18 (io), J19 IO_L6N_36_J19 (io), K15 VCCO_36_K15 (io), K16 IO_L9P_MRCC_36_K16 (io), K17 IO_L2N_36_K17 (io), K18 IO_L2P_36_K18 (io), K19 IO_L6P_36_K19 (io), L14 IO_L10N_MRCC_36_L14 (io), L15 IO_L10P_MRCC_36_L15 (io), L16 IO_L9N_MRCC_36_L16 (io), L18 IO_L4N_VREF_36_L18 (io), L19 IO_L4P_36_L19 (io), M15 IO_L17N_36_M15 (io), M16 IO_L17P_36_M16 (io), M17 IO_L7N_36_M17 (io), M18 IO_L7P_36_M18 (io)
part V pins: A1 GND_A1 (io), A2 GND_A2 (io), A5 GND_A5 (io), A6 GND_A6 (io), A7 GND_A7 (io), A17 GND_A17 (io), A27 GND_A27 (io), A34 GND_A34 (io), AA1 GND_AA1 (io), AA2 GND_AA2 (io), AA5 GND_AA5 (io), AA7 GND_AA7 (io), AA9 GND_AA9 (io), AA11 GND_AA11 (io), AA13 GND_AA13 (io), AA15 GND_AA15 (io), AA17 GND_AA17 (io), AA19 GND_AA19 (io), AA21 GND_AA21 (io), AA27 GND_AA27 (io), AB3 GND_AB3 (io), AB4 GND_AB4 (io), AB7 GND_AB7 (io), AB8 GND_AB8 (io), AB12 GND_AB12 (io), AB14 GND_AB14 (io), AB16 GND_AB16 (io), AB18 GND_AB18 (io), AB20 GND_AB20 (io), AB22 GND_AB22 (io), AB24 GND_AB24 (io), AB34 GND_AB34 (io), AC1 GND_AC1 (io), AC5 GND_AC5 (io), AC7 GND_AC7 (io), AC11 GND_AC11 (io), AC21 GND_AC21 (io), AC31 GND_AC31 (io), AD4 GND_AD4 (io), AD7 GND_AD7 (io), AD18 GND_AD18 (io), AD28 GND_AD28 (io), AE1 GND_AE1 (io), AE2 GND_AE2 (io), AE5 GND_AE5 (io), AE7 GND_AE7 (io), AE15 GND_AE15 (io), AE25 GND_AE25 (io), AF3 GND_AF3 (io), AF4 GND_AF4 (io), AF7 GND_AF7 (io), AF12 GND_AF12 (io), AF22 GND_AF22 (io), AF32 GND_AF32 (io), AG1 GND_AG1 (io), AG5 GND_AG5 (io), AG7 GND_AG7 (io), AG9 GND_AG9 (io), AG19 GND_AG19 (io), AG29 GND_AG29 (io), AH4 GND_AH4 (io), AH7 GND_AH7 (io), AH16 GND_AH16 (io), AH26 GND_AH26 (io), AJ1 GND_AJ1 (io), AJ2 GND_AJ2 (io), AJ5 GND_AJ5 (io), AJ7 GND_AJ7 (io), AJ13 GND_AJ13 (io), AJ23 GND_AJ23 (io), AJ33 GND_AJ33 (io), AK3 GND_AK3 (io), AK4 GND_AK4 (io), AK7 GND_AK7 (io), AK10 GND_AK10 (io), AK20 GND_AK20 (io), AK30 GND_AK30 (io), AL1 GND_AL1 (io), AL5 GND_AL5 (io), AL7 GND_AL7 (io), AL17 GND_AL17 (io), AL27 GND_AL27 (io), AM4 GND_AM4 (io), AM7 GND_AM7 (io), AM8 GND_AM8 (io), AM14 GND_AM14 (io), AM24 GND_AM24 (io), AM34 GND_AM34 (io), AN1 GND_AN1 (io), AN2 GND_AN2 (io), AN5 GND_AN5 (io), AN8 GND_AN8 (io), AN11 GND_AN11 (io), AN21 GND_AN21 (io), AN31 GND_AN31 (io), AP3 GND_AP3 (io), AP4 GND_AP4 (io), AP8 GND_AP8 (io), AP18 GND_AP18 (io), AP28 GND_AP28 (io), AP34 GND_AP34 (io), B3 GND_B3 (io), B4 GND_B4 (io), B7 GND_B7 (io), B14 GND_B14 (io), B24 GND_B24 (io), C1 GND_C1 (io), C5 GND_C5 (io), C7 GND_C7 (io), C11 GND_C11 (io), C21 GND_C21 (io), C31 GND_C31 (io), D4 GND_D4 (io), D7 GND_D7 (io), D8 GND_D8 (io), D18 GND_D18 (io), D28 GND_D28 (io), E1 GND_E1 (io), E2 GND_E2 (io), E5 GND_E5 (io), E7 GND_E7 (io), E15 GND_E15 (io), E25 GND_E25 (io), F3 GND_F3 (io), F4 GND_F4 (io), F7 GND_F7 (io), F12 GND_F12 (io), F22 GND_F22 (io), F32 GND_F32 (io), G1 GND_G1 (io), G5 GND_G5 (io), G7 GND_G7 (io), G9 GND_G9 (io), G19 GND_G19 (io), G29 GND_G29 (io), H4 GND_H4 (io), H7 GND_H7 (io), H16 GND_H16 (io), H26 GND_H26 (io), J1 GND_J1 (io), J2 GND_J2 (io), J5 GND_J5 (io), J7 GND_J7 (io), J8 GND_J8 (io), J13 GND_J13 (io), J23 GND_J23 (io), J33 GND_J33 (io), K3 GND_K3 (io), K4 GND_K4 (io), K7 GND_K7 (io), K10 GND_K10 (io), K20 GND_K20 (io), K30 GND_K30 (io), L1 GND_L1 (io), L5 GND_L5 (io), L7 GND_L7 (io), L17 GND_L17 (io), L27 GND_L27 (io), M4 GND_M4 (io), M7 GND_M7 (io), M14 GND_M14 (io), M20 GND_M20 (io), M24 GND_M24 (io), M34 GND_M34 (io), N1 GND_N1 (io), N2 GND_N2 (io), N5 GND_N5 (io), N7 GND_N7 (io), N9 GND_N9 (io), N11 GND_N11 (io), N13 GND_N13 (io), N15 GND_N15 (io), N17 GND_N17 (io), N19 GND_N19 (io), N21 GND_N21 (io), N31 GND_N31 (io), P3 GND_P3 (io), P4 GND_P4 (io), P7 GND_P7 (io), P10 GND_P10 (io), P12 GND_P12 (io), P14 GND_P14 (io), P16 GND_P16 (io), P18 GND_P18 (io), P20 GND_P20 (io), P22 GND_P22 (io), P28 GND_P28 (io), R1 GND_R1 (io), R5 GND_R5 (io), R7 GND_R7 (io), R9 GND_R9 (io), R11 GND_R11 (io), R13 GND_R13 (io), R15 GND_R15 (io), R17 GND_R17 (io), R19 GND_R19 (io), R21 GND_R21 (io), R23 GND_R23 (io), R25 GND_R25 (io), T4 GND_T4 (io), T7 GND_T7 (io), T8 GND_T8 (io), T10 GND_T10 (io), T12 GND_T12 (io), T14 GND_T14 (io), T16 GND_T16 (io), T20 GND_T20 (io), T22 GND_T22 (io), T32 GND_T32 (io), U1 GND_U1 (io), U2 GND_U2 (io), U5 GND_U5 (io), U7 GND_U7 (io), U9 GND_U9 (io), U11 GND_U11 (io), U13 GND_U13 (io), U15 GND_U15 (io), U19 GND_U19 (io), U21 GND_U21 (io), U29 GND_U29 (io), V3 GND_V3 (io), V4 GND_V4 (io), V7 GND_V7 (io), V10 GND_V10 (io), V12 GND_V12 (io), V14 GND_V14 (io), V16 GND_V16 (io), V20 GND_V20 (io), V22 GND_V22 (io), V26 GND_V26 (io), W1 GND_W1 (io), W5 GND_W5 (io), W7 GND_W7 (io), W9 GND_W9 (io), W11 GND_W11 (io), W13 GND_W13 (io), W15 GND_W15 (io), W19 GND_W19 (io), W21 GND_W21 (io), W23 GND_W23 (io), W33 GND_W33 (io), Y4 GND_Y4 (io), Y5 GND_Y5 (io), Y6 GND_Y6 (io), Y7 GND_Y7 (io), Y10 GND_Y10 (io), Y12 GND_Y12 (io), Y14 GND_Y14 (io), Y16 GND_Y16 (io), Y18 GND_Y18 (io), Y20 GND_Y20 (io), Y22 GND_Y22 (io), Y30 GND_Y30 (io)
part W pins: C6 MGTAVCC_N_C6 (io), E6 MGTAVCC_N_E6 (io), G6 MGTAVCC_N_G6 (io), J6 MGTAVCC_N_J6 (io), L6 MGTAVCC_N_L6 (io), N6 MGTAVCC_N_N6 (io)
part X pins: AA6 MGTAVCC_S_AA6 (io), AC6 MGTAVCC_S_AC6 (io), AE6 MGTAVCC_S_AE6 (io), AG6 MGTAVCC_S_AG6 (io), AJ6 MGTAVCC_S_AJ6 (io), AL6 MGTAVCC_S_AL6 (io), AN6 MGTAVCC_S_AN6 (io), R6 MGTAVCC_S_R6 (io), U6 MGTAVCC_S_U6 (io), W6 MGTAVCC_S_W6 (io)
part Y pins: C2 MGTAVTT_N_C2 (io), D3 MGTAVTT_N_D3 (io), G2 MGTAVTT_N_G2 (io), H3 MGTAVTT_N_H3 (io), L2 MGTAVTT_N_L2 (io), M3 MGTAVTT_N_M3 (io)
part Z pins: AC2 MGTAVTT_S_AC2 (io), AD3 MGTAVTT_S_AD3 (io), AG2 MGTAVTT_S_AG2 (io), AH3 MGTAVTT_S_AH3 (io), AL2 MGTAVTT_S_AL2 (io), AM3 MGTAVTT_S_AM3 (io), R2 MGTAVTT_S_R2 (io), T3 MGTAVTT_S_T3 (io), W2 MGTAVTT_S_W2 (io), Y3 MGTAVTT_S_Y3 (io)
part 27 pins: AA10 VCCAUX_AA10 (io), AA22 VCCAUX_AA22 (io), N10 VCCAUX_N10 (io), N22 VCCAUX_N22 (io), P9 VCCAUX_P9 (io), P23 VCCAUX_P23 (io), R22 VCCAUX_R22 (io), T9 VCCAUX_T9 (io), U22 VCCAUX_U22 (io), V9 VCCAUX_V9 (io), W10 VCCAUX_W10 (io), W22 VCCAUX_W22 (io), Y23 VCCAUX_Y23 (io)
part 28 pins: AA12 VCCINT_AA12 (io), AA14 VCCINT_AA14 (io), AA16 VCCINT_AA16 (io), AA18 VCCINT_AA18 (io), AA20 VCCINT_AA20 (io), AB11 VCCINT_AB11 (io), AB13 VCCINT_AB13 (io), AB15 VCCINT_AB15 (io), AB17 VCCINT_AB17 (io), AB19 VCCINT_AB19 (io), AB21 VCCINT_AB21 (io), M19 VCCINT_M19 (io), M21 VCCINT_M21 (io), N12 VCCINT_N12 (io), N14 VCCINT_N14 (io), N16 VCCINT_N16 (io), N18 VCCINT_N18 (io), N20 VCCINT_N20 (io), P11 VCCINT_P11 (io), P13 VCCINT_P13 (io), P15 VCCINT_P15 (io), P17 VCCINT_P17 (io), P19 VCCINT_P19 (io), P21 VCCINT_P21 (io), R10 VCCINT_R10 (io), R12 VCCINT_R12 (io), R14 VCCINT_R14 (io), R16 VCCINT_R16 (io), R18 VCCINT_R18 (io), R20 VCCINT_R20 (io), T11 VCCINT_T11 (io), T13 VCCINT_T13 (io), T15 VCCINT_T15 (io), T19 VCCINT_T19 (io), T21 VCCINT_T21 (io), U10 VCCINT_U10 (io), U12 VCCINT_U12 (io), U14 VCCINT_U14 (io), U16 VCCINT_U16 (io), U20 VCCINT_U20 (io), V11 VCCINT_V11 (io), V13 VCCINT_V13 (io), V15 VCCINT_V15 (io), V19 VCCINT_V19 (io), V21 VCCINT_V21 (io), W12 VCCINT_W12 (io), W14 VCCINT_W14 (io), W16 VCCINT_W16 (io), W20 VCCINT_W20 (io), Y11 VCCINT_Y11 (io), Y13 VCCINT_Y13 (io), Y15 VCCINT_Y15 (io), Y17 VCCINT_Y17 (io), Y19 VCCINT_Y19 (io), Y21 VCCINT_Y21 (io)
part A text: DUT; BANK 0
part B text: DUT; BANK 112
part C text: DUT; BANK 113
part D text: DUT; BANK 114
part E text: DUT; BANK 115
part F text: DUT; BANK 116
part G text: DUT; BANK 12
part H text: DUT; BANK 13
part I text: DUT; BANK 14
part J text: DUT; BANK 15
part K text: DUT; BANK 16
part L text: DUT; BANK 22
part M text: DUT; BANK 23
part N text: DUT; BANK 24
part O text: DUT; BANK 25
part P text: DUT; BANK 26
part Q text: DUT; BANK 32
part R text: DUT; BANK 33
part S text: DUT; BANK 34
part T text: DUT; BANK 35
part U text: DUT; BANK 36
part V text: DUT; BANK GND
part W text: DUT; BANK MGTAVCC_N
part X text: DUT; BANK MGTAVCC_S
part Y text: DUT; BANK MGTAVTT_N
part Z text: DUT; BANK MGTAVTT_S
part 27 text: DUT; BANK VCCAUX
part 28 text: DUT; BANK VCCINT

## 12V_RT_ANGLE_MINI_FIT_JACK.1
designator J?, comment XXX
DIST_P/N: 5794173-3; DIST: TYCO ELECTRONICS AMP; PKG_TYPE: CON_TYCO_5794173; LEVEL: STD; MANF_P/N: 5794173-3; MANF: TYCO ELECTRONICS AMP; DEVICE: XXX; VALUE: XXX
footprint CON_TYCO_5794173
pins: 1 12V_A (out), 2 NC_A (out), 3 GND_A (out), 4 12V_B (out), 5 NC_B (out), 6 GND_B (out)
text: 12V; N/C; COM

## 24AA64.1
designator U?, comment 24AA64  (value not drawn)
DEVICE: 24AA64
pins: 1 A0 (out), 2 A1 (out), 3 A2 (out), 4 GND, 5 SDA (io), 6 SCL (out), 7 WP (out), 8 VCC

## 88E1111-RCJ.1
designator U?, comment M88E1111_PQFP128R  PKG_TYPE: PQFP-128R
LEVEL: STD; DEVICE: M88E1111_PQFP128R
footprint PQFP-128R
pins: 1 VSS_1, 2 DVDD_2, 3 RXD0 (out), 4 RXDV (out), 5 VDDO_5, 6 DVDD_6, 7 RXCLK (out), 8 RXER (out), 9 VSS_9, 10 TXCLK (out), 11 VDDO_11, 12 DVDD_12, 13 TXER (in), 14 GTXCLK (in), 15 VSS_15, 16 TXEN (in), 17 DVDD_17, 18 TXD0 (in), 19 TXD1 (in), 20 TXD2 (in), 21 VSS_21, 22 VSS_22, 23 DVDD_23, 24 TXD3 (in), 25 TXD4 (in), 26 TXD5 (in), 27 DVDD_27, 28 TXD6 (in), 29 TXD7 (in), 30 VDDO_30, 31 CLK125 (out), 32 INT_B (out), 33 MDIO (io), 34 VDDOX_34, 35 MDC (in), 36 RESET_B (in), 37 COMA (in), 38 VSS_38, 39 RSET, 40 VSS_40, 41 MDI0_P (io), 42 MDI0_N (io), 43 VSS_43, 44 AVDD_44, 45 VSS_45, 46 MDI1_P (io), 47 MDI1_N (io), 48 VSS_48, 49 AVDD_49, 50 NC_50, 51 VSS_51, 52 AVDD_52, 53 HSDAC_P, 54 HSDAC_N, 55 VSS_55, 56 MDI2_P (io), 57 MDI2_N, 58 VSS_58, 59 AVDD_59, 60 VSS_60, 61 MDI3_P (io), 62 MDI3_N (io), 63 VSS_63, 64 AVDD_64, 65 VSS_65, 66 VSS_66, 67 TDI (in), 68 TRST_B (in), 69 TMS (in), 70 TCK (in), 71 VDDOX_71, 72 TDO (out), 73 VDDOH_73, 74 VSSC_74, 75 XTAL2 (in), 76 XTAL1 (in), 77 SEL_OSC (in), 78 DVDD_78, 79 CONFIG6 (in), 80 CONFIG5 (in), 81 CONFIG4 (in), 82 CONFIG3 (in), 83 VSS_83, 84 VSS_84, 85 DVDD_85, 86 CONFIG2 (in), 87 CONFIG1 (in), 88 CONFIG0 (in), 89 VDDOH_89, 90 DVDD_90, 91 LED_TX (out), 92 LED_RX (out), 93 VSS_93, 94 VSS_94, 95 LED_DPLX (out), 96 DVDD_96, 97 VDDOH_97, 98 LED_LINK1000 (out), 99 LED_LINK100 (out), 100 LED_LINK10 (out), 101 VSS_101, 102 VSS_102, 103 VSS_103, 104 AVDD_104, 105 SOUT_N (out), 106 VSS_106, 107 SOUT_P (out), 108 VSS_108, 109 SCLK_N (out), 110 SCLK_P (out), 111 VSS_111, 112 SIN_N (in), 113 SIN_P (in), 114 COL (out), 115 CRS (out), 116 VSS_116, 117 DVDD_117, 118 DVDD_118, 119 VSS_119, 120 RXD7 (out), 121 RXD6 (out), 122 VDDO_122, 123 RXD5 (out), 124 RXD4 (out), 125 RXD3 (out), 126 RXD2 (out), 127 VSS_127, 128 RXD1 (out)

## 0603_SHORT.1
designator Z?, comment 0603_SHORT
LEVEL: STD; PACKAGE: 0603_SHORT; DEVICE: 0603_SHORT; PKG_TYPE: 0603_SHORT
footprint 0603_SHORT
pins: 1 NET1, 2 NET2

## ABLS-25_000MHZ.1
designator X?, comment XTAL_SMD
VALUE: MHZ?; LEVEL: STD; PREFIX: X; @CS: .054PF; @RS: 15; @CP: 29PF; @LS: .0548H; CLASS: CRYSTAL; DEVICE: XTAL_SMD; PKG_TYPE: XTAL_SMD
footprint XTAL_SMD
pins: 1 P1 (io), 2 P4 (io)

## AGND1.1
designator *, comment AGND1
DEVICE: AGND1; NETNAME: AGND1

## AGND2.1
designator *, comment AGND2
DEVICE: AGND2; NETNAME: AGND2

## AGND3.1
designator *, comment AGND3
DEVICE: AGND3; NETNAME: AGND3

## AGND5.1
designator *, comment AGND5
DEVICE: AGND5; NETNAME: AGND5

## AGND6.1
designator *, comment AGND6
DEVICE: AGND6; NETNAME: AGND6

## AGND7.1
designator *, comment AGND7
DEVICE: AGND7; NETNAME: AGND7

## AGND8.1
designator *, comment AGND8
DEVICE: AGND8; NETNAME: AGND8

## AGND19240.1
designator *, comment AGND1_9240  (value not drawn)
DEVICE: AGND1_9240; NETNAME: AGND1_9240
text: AGND1; 9240

## AGND29240.1
designator *, comment AGND2_9240  (value not drawn)
DEVICE: AGND2_9240; NETNAME: AGND2_9240
text: AGND2; 9240

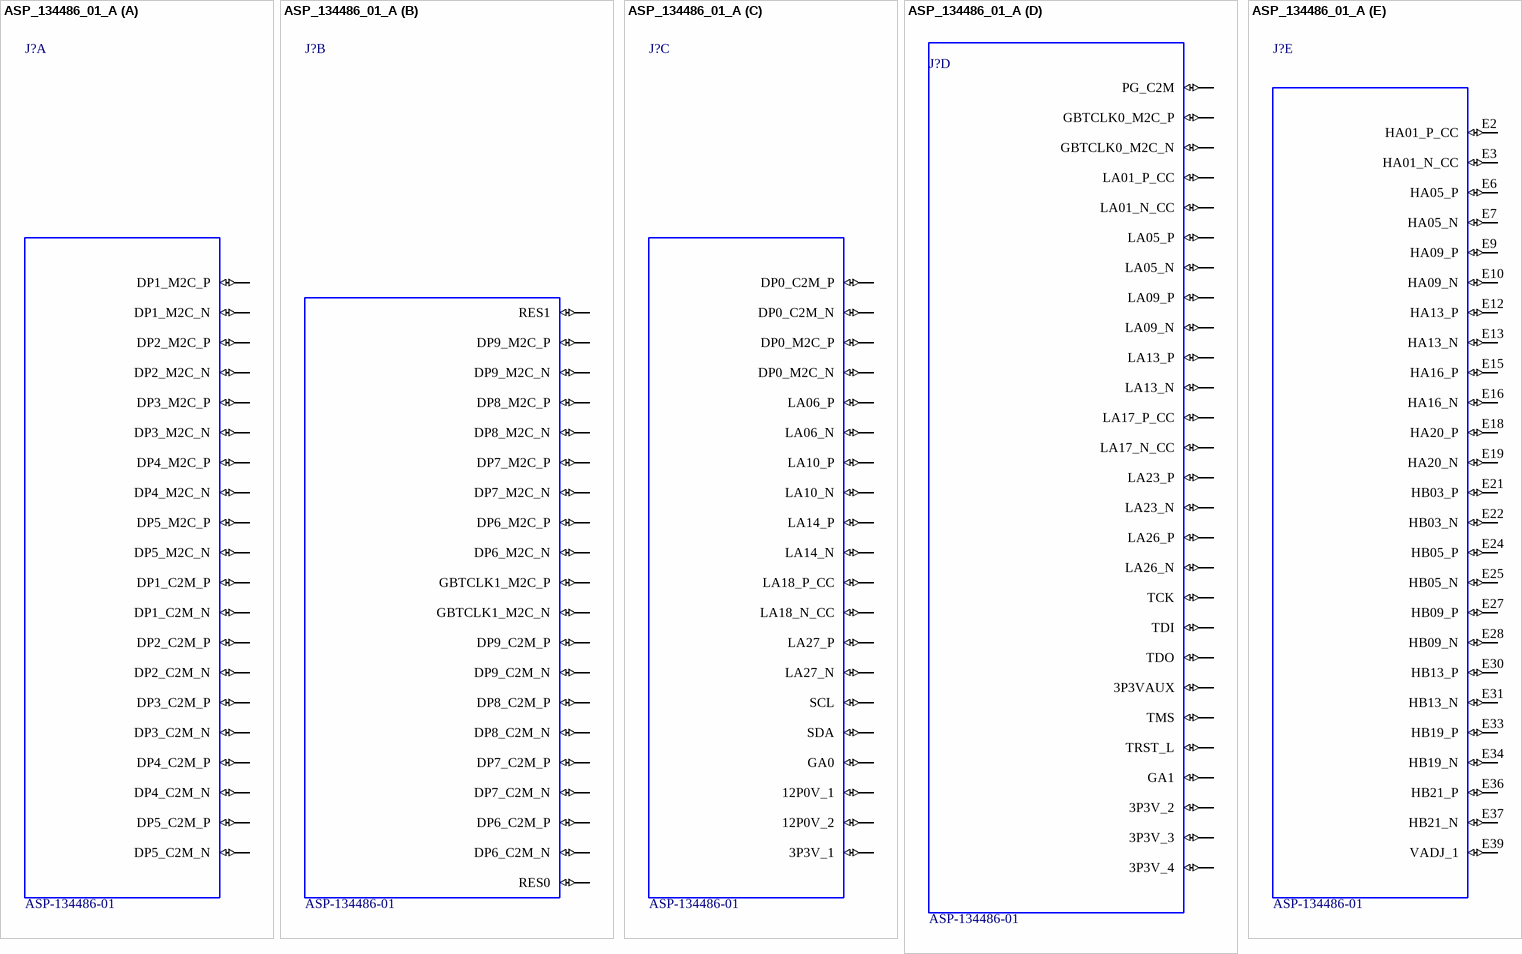
[diagram p12: symbol ASP_134486_01_A]

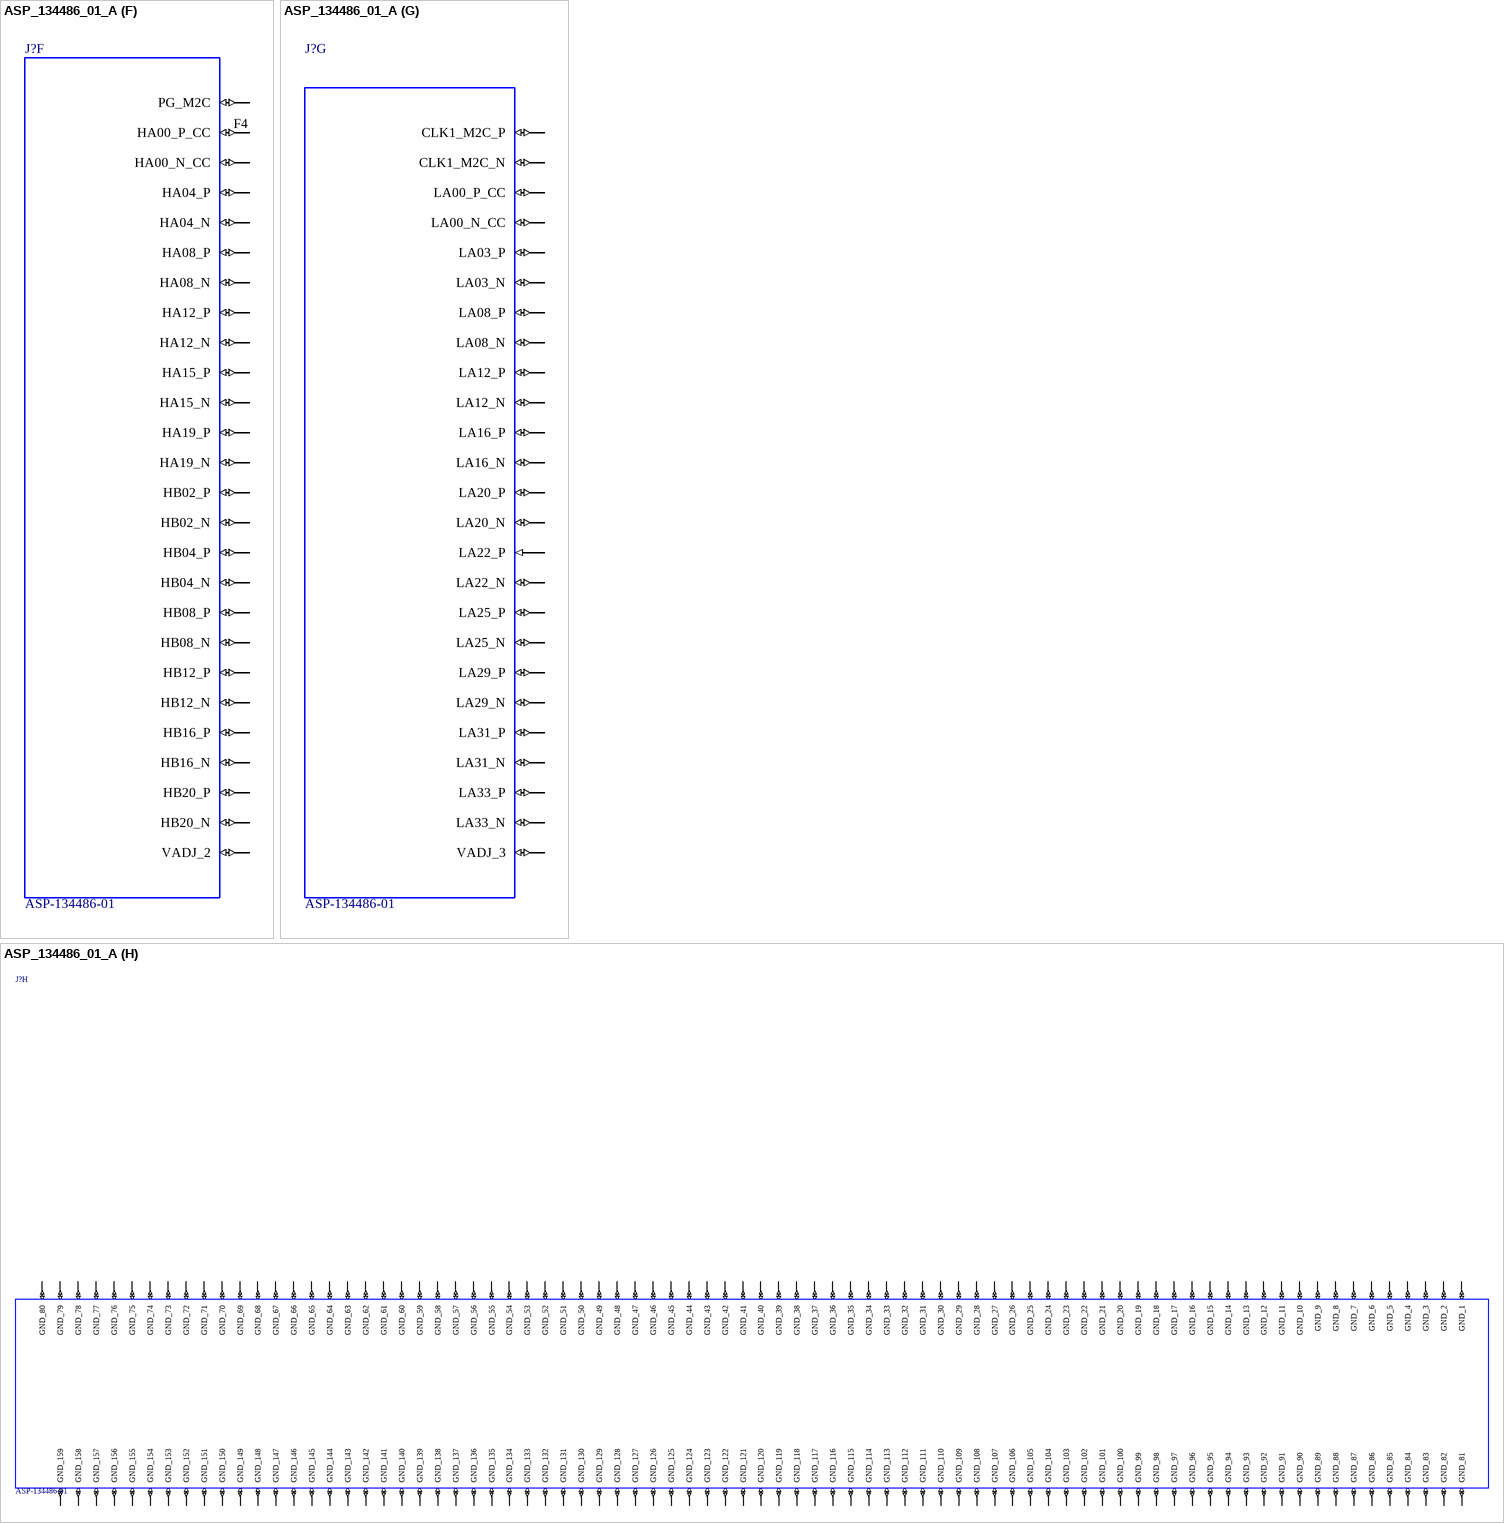
[diagram p13: symbol ASP_134486_01_A]

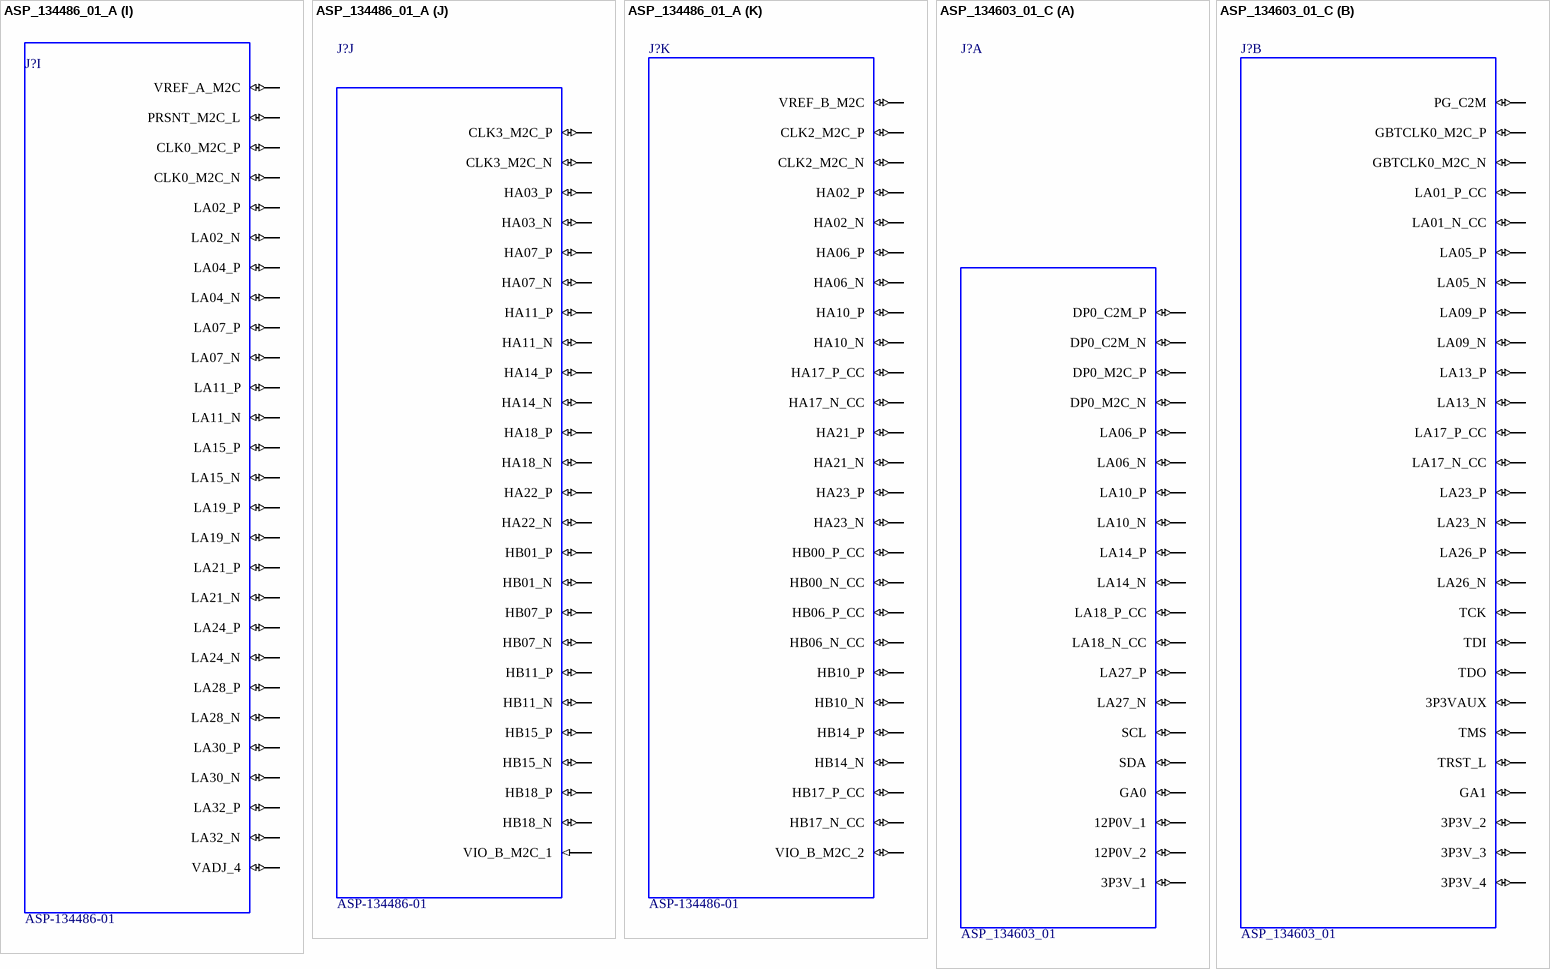
[diagram p14: symbols ASP_134486_01_A to ASP_134603_01_C]

## ASP_134486_01_A
designator J?, comment ASP-134486-01
LEVEL: STD; PKG_TYPE: ASP-134486-01; DEVICE: ASP-134486-01
part A pins: A2 DP1_M2C_P (io), A3 DP1_M2C_N (io), A6 DP2_M2C_P (io), A7 DP2_M2C_N (io), A10 DP3_M2C_P (io), A11 DP3_M2C_N (io), A14 DP4_M2C_P (io), A15 DP4_M2C_N (io), A18 DP5_M2C_P (io), A19 DP5_M2C_N (io), A22 DP1_C2M_P (io), A23 DP1_C2M_N (io), A26 DP2_C2M_P (io), A27 DP2_C2M_N (io), A30 DP3_C2M_P (io), A31 DP3_C2M_N (io), A34 DP4_C2M_P (io), A35 DP4_C2M_N (io), A38 DP5_C2M_P (io), A39 DP5_C2M_N (io)
part B pins: B1 RES1 (io), B4 DP9_M2C_P (io), B5 DP9_M2C_N (io), B8 DP8_M2C_P (io), B9 DP8_M2C_N (io), B12 DP7_M2C_P (io), B13 DP7_M2C_N (io), B16 DP6_M2C_P (io), B17 DP6_M2C_N (io), B20 GBTCLK1_M2C_P (io), B21 GBTCLK1_M2C_N (io), B24 DP9_C2M_P (io), B25 DP9_C2M_N (io), B28 DP8_C2M_P (io), B29 DP8_C2M_N (io), B32 DP7_C2M_P (io), B33 DP7_C2M_N (io), B36 DP6_C2M_P (io), B37 DP6_C2M_N (io), B40 RES0 (io)
part C pins: C2 DP0_C2M_P (io), C3 DP0_C2M_N (io), C6 DP0_M2C_P (io), C7 DP0_M2C_N (io), C10 LA06_P (io), C11 LA06_N (io), C14 LA10_P (io), C15 LA10_N (io), C18 LA14_P (io), C19 LA14_N (io), C22 LA18_P_CC (io), C23 LA18_N_CC (io), C26 LA27_P (io), C27 LA27_N (io), C30 SCL (io), C31 SDA (io), C34 GA0 (io), C35 12P0V_1 (io), C37 12P0V_2 (io), C39 3P3V_1 (io)
part D pins: D1 PG_C2M (io), D4 GBTCLK0_M2C_P (io), D5 GBTCLK0_M2C_N (io), D8 LA01_P_CC (io), D9 LA01_N_CC (io), D11 LA05_P (io), D12 LA05_N (io), D14 LA09_P (io), D15 LA09_N (io), D17 LA13_P (io), D18 LA13_N (io), D20 LA17_P_CC (io), D21 LA17_N_CC (io), D23 LA23_P (io), D24 LA23_N (io), D26 LA26_P (io), D27 LA26_N (io), D29 TCK (io), D30 TDI (io), D31 TDO (io), D32 3P3VAUX (io), D33 TMS (io), D34 TRST_L (io), D35 GA1 (io), D36 3P3V_2 (io), D38 3P3V_3 (io), D40 3P3V_4 (io)
part E pins: E2 HA01_P_CC (io), E3 HA01_N_CC (io), E6 HA05_P (io), E7 HA05_N (io), E9 HA09_P (io), E10 HA09_N (io), E12 HA13_P (io), E13 HA13_N (io), E15 HA16_P (io), E16 HA16_N (io), E18 HA20_P (io), E19 HA20_N (io), E21 HB03_P (io), E22 HB03_N (io), E24 HB05_P (io), E25 HB05_N (io), E27 HB09_P (io), E28 HB09_N (io), E30 HB13_P (io), E31 HB13_N (io), E33 HB19_P (io), E34 HB19_N (io), E36 HB21_P (io), E37 HB21_N (io), E39 VADJ_1 (io)
part F pins: F1 PG_M2C (io), F4 HA00_P_CC (io), F5 HA00_N_CC (io), F7 HA04_P (io), F8 HA04_N (io), F10 HA08_P (io), F11 HA08_N (io), F13 HA12_P (io), F14 HA12_N (io), F16 HA15_P (io), F17 HA15_N (io), F19 HA19_P (io), F20 HA19_N (io), F22 HB02_P (io), F23 HB02_N (io), F25 HB04_P (io), F26 HB04_N (io), F28 HB08_P (io), F29 HB08_N (io), F31 HB12_P (io), F32 HB12_N (io), F34 HB16_P (io), F35 HB16_N (io), F37 HB20_P (io), F38 HB20_N (io), F40 VADJ_2 (io)
part G pins: G2 CLK1_M2C_P (io), G3 CLK1_M2C_N (io), G6 LA00_P_CC (io), G7 LA00_N_CC (io), G9 LA03_P (io), G10 LA03_N (io), G12 LA08_P (io), G13 LA08_N (io), G15 LA12_P (io), G16 LA12_N (io), G18 LA16_P (io), G19 LA16_N (io), G21 LA20_P (io), G22 LA20_N (io), G24 LA22_P (in), G25 LA22_N (io), G27 LA25_P (io), G28 LA25_N (io), G30 LA29_P (io), G31 LA29_N (io), G33 LA31_P (io), G34 LA31_N (io), G36 LA33_P (io), G37 LA33_N (io), G39 VADJ_3 (io)
part H pins: A1 GND_1 (io), A4 GND_2 (io), A5 GND_3 (io), A8 GND_4 (io), A9 GND_5 (io), A12 GND_6 (io), A13 GND_7 (io), A16 GND_8 (io), A17 GND_9 (io), A20 GND_10 (io), A21 GND_11 (io), A24 GND_12 (io), A25 GND_13 (io), A28 GND_14 (io), A29 GND_15 (io), A32 GND_16 (io), A33 GND_17 (io), A36 GND_18 (io), A37 GND_19 (io), A40 GND_20 (io), B2 GND_21 (io), B3 GND_22 (io), B6 GND_23 (io), B7 GND_24 (io), B10 GND_25 (io), B11 GND_26 (io), B14 GND_27 (io), B15 GND_28 (io), B18 GND_29 (io), B19 GND_30 (io), B22 GND_31 (io), B23 GND_32 (io), B26 GND_33 (io), B27 GND_34 (io), B30 GND_35 (io), B31 GND_36 (io), B34 GND_37 (io), B35 GND_38 (io), B38 GND_39 (io), B39 GND_40 (io), C1 GND_41 (io), C4 GND_42 (io), C5 GND_43 (io), C8 GND_44 (io), C9 GND_45 (io), C12 GND_46 (io), C13 GND_47 (io), C16 GND_48 (io), C17 GND_49 (io), C20 GND_50 (io), C21 GND_51 (io), C24 GND_52 (io), C25 GND_53 (io), C28 GND_54 (io), C29 GND_55 (io), C32 GND_56 (io), C33 GND_57 (io), C36 GND_58 (io), C38 GND_59 (io), C40 GND_60 (io), D2 GND_61 (io), D3 GND_62 (io), D6 GND_63 (io), D7 GND_64 (io), D10 GND_65 (io), D13 GND_66 (io), D16 GND_67 (io), D19 GND_68 (io), D22 GND_69 (io), D25 GND_70 (io), D28 GND_71 (io), D37 GND_72 (io), D39 GND_73 (io), E1 GND_74 (io), E4 GND_75 (io), E5 GND_76 (io), E8 GND_77 (io), E11 GND_78 (io), E14 GND_79 (io), E17 GND_80 (io), E20 GND_81 (io), E23 GND_82 (io), E26 GND_83 (io), E29 GND_84 (io), E32 GND_85 (io), E35 GND_86 (io), E38 GND_87 (io), E40 GND_88 (io), F2 GND_89 (io), F3 GND_90 (io), F6 GND_91 (io), F9 GND_92 (io), F12 GND_93 (io), F15 GND_94 (io), F18 GND_95 (io), F21 GND_96 (io), F24 GND_97 (io), F27 GND_98 (io), F30 GND_99 (io), F33 GND_100 (io), F36 GND_101 (io), F39 GND_102 (io), G1 GND_103 (io), G4 GND_104 (io), G5 GND_105 (io), G8 GND_106 (io), G11 GND_107 (io), G14 GND_108 (io), G17 GND_109 (io), G20 GND_110 (io), G23 GND_111 (io), G26 GND_112 (io), G29 GND_113 (io), G32 GND_114 (io), G35 GND_115 (io), G38 GND_116 (io), G40 GND_117 (io), H3 GND_118 (io), H6 GND_119 (io), H9 GND_120 (io), H12 GND_121 (io), H15 GND_122 (io), H18 GND_123 (io), H21 GND_124 (io), H24 GND_125 (io), H27 GND_126 (io), H30 GND_127 (io), H33 GND_128 (io), H36 GND_129 (io), H39 GND_130 (io), J1 GND_131 (io), J4 GND_132 (io), J5 GND_133 (io), J8 GND_134 (io), J11 GND_135 (io), J14 GND_136 (io), J17 GND_137 (io), J20 GND_138 (io), J23 GND_139 (io), J26 GND_140 (io), J29 GND_141 (io), J32 GND_142 (io), J35 GND_143 (io), J38 GND_144 (io), J40 GND_145 (io), K2 GND_146 (io), K3 GND_147 (io), K6 GND_148 (io), K9 GND_149 (io), K12 GND_150 (io), K15 GND_151 (io), K18 GND_152 (io), K21 GND_153 (io), K24 GND_154 (io), K27 GND_155 (io), K30 GND_156 (io), K33 GND_157 (io), K36 GND_158 (io), K39 GND_159 (io)
part I pins: H1 VREF_A_M2C (io), H2 PRSNT_M2C_L (io), H4 CLK0_M2C_P (io), H5 CLK0_M2C_N (io), H7 LA02_P (io), H8 LA02_N (io), H10 LA04_P (io), H11 LA04_N (io), H13 LA07_P (io), H14 LA07_N (io), H16 LA11_P (io), H17 LA11_N (io), H19 LA15_P (io), H20 LA15_N (io), H22 LA19_P (io), H23 LA19_N (io), H25 LA21_P (io), H26 LA21_N (io), H28 LA24_P (io), H29 LA24_N (io), H31 LA28_P (io), H32 LA28_N (io), H34 LA30_P (io), H35 LA30_N (io), H37 LA32_P (io), H38 LA32_N (io), H40 VADJ_4 (io)
part J pins: J2 CLK3_M2C_P (io), J3 CLK3_M2C_N (io), J6 HA03_P (io), J7 HA03_N (io), J9 HA07_P (io), J10 HA07_N (io), J12 HA11_P (io), J13 HA11_N (io), J15 HA14_P (io), J16 HA14_N (io), J18 HA18_P (io), J19 HA18_N (io), J21 HA22_P (io), J22 HA22_N (io), J24 HB01_P (io), J25 HB01_N (io), J27 HB07_P (io), J28 HB07_N (io), J30 HB11_P (io), J31 HB11_N (io), J33 HB15_P (io), J34 HB15_N (io), J36 HB18_P (io), J37 HB18_N (io), J39 VIO_B_M2C_1 (in)
part K pins: K1 VREF_B_M2C (io), K4 CLK2_M2C_P (io), K5 CLK2_M2C_N (io), K7 HA02_P (io), K8 HA02_N (io), K10 HA06_P (io), K11 HA06_N (io), K13 HA10_P (io), K14 HA10_N (io), K16 HA17_P_CC (io), K17 HA17_N_CC (io), K19 HA21_P (io), K20 HA21_N (io), K22 HA23_P (io), K23 HA23_N (io), K25 HB00_P_CC (io), K26 HB00_N_CC (io), K28 HB06_P_CC (io), K29 HB06_N_CC (io), K31 HB10_P (io), K32 HB10_N (io), K34 HB14_P (io), K35 HB14_N (io), K37 HB17_P_CC (io), K38 HB17_N_CC (io), K40 VIO_B_M2C_2 (io)

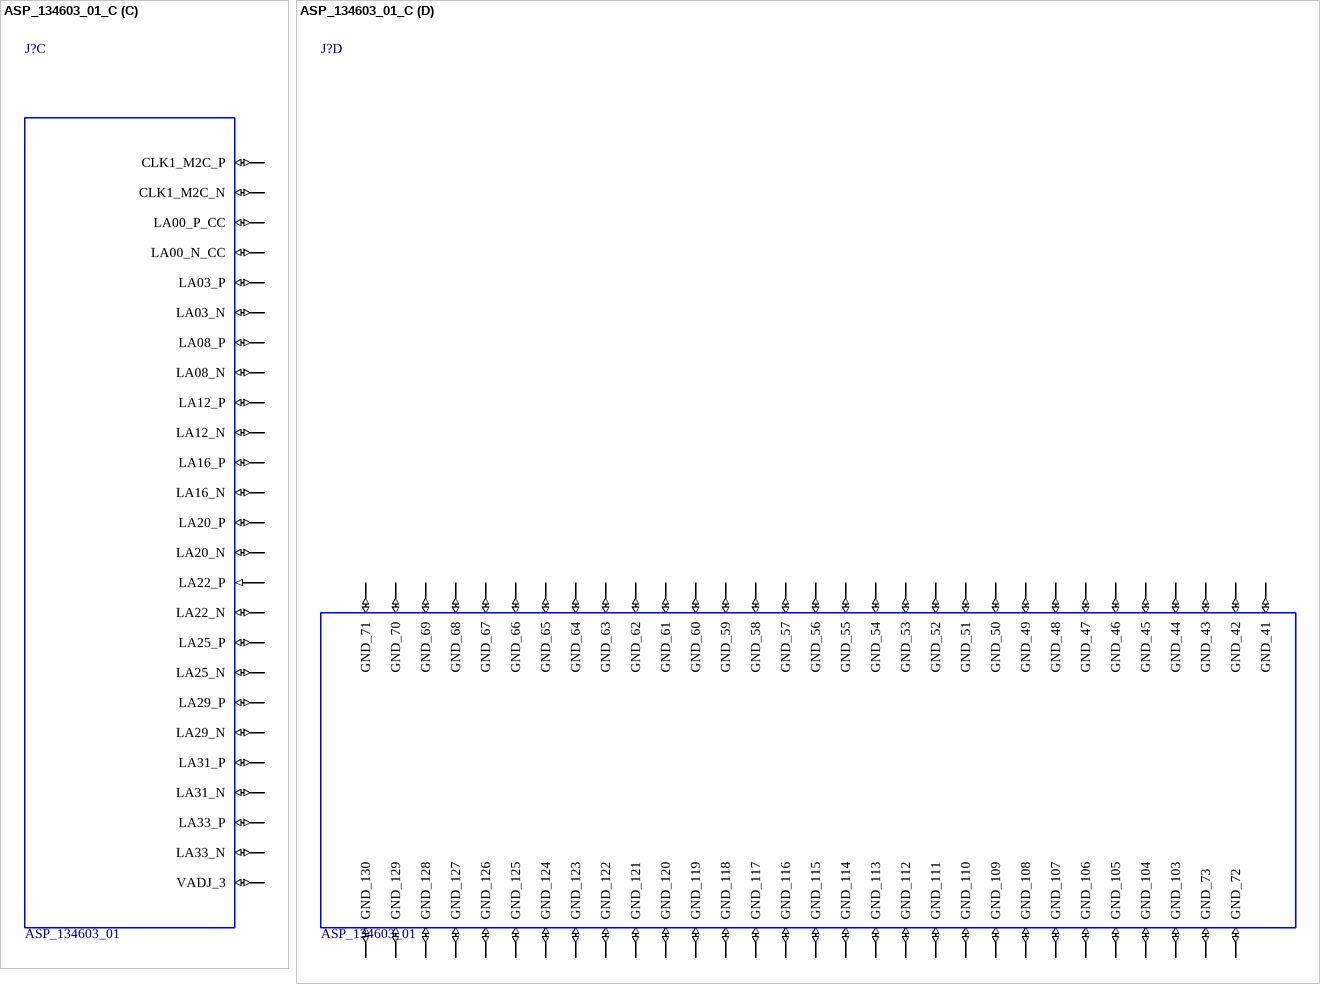
[diagram p15: symbol ASP_134603_01_C]

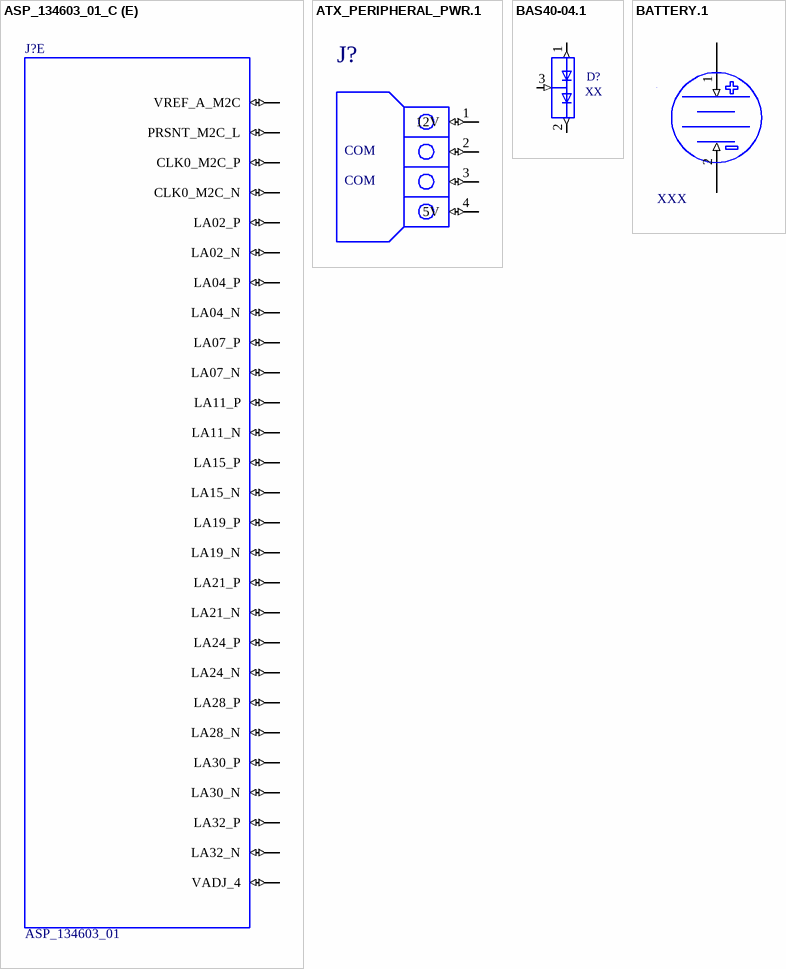
[diagram p16: symbols ASP_134603_01_C to BATTERY.1]

## ASP_134603_01_C
designator J?, comment ASP_134603_01
LEVEL: STD; MANF_P/N: ASP_134603_01; PKG_TYPE: ASP_134603_01; DEVICE: ASP_134603_01
part A pins: C2 DP0_C2M_P (io), C3 DP0_C2M_N (io), C6 DP0_M2C_P (io), C7 DP0_M2C_N (io), C10 LA06_P (io), C11 LA06_N (io), C14 LA10_P (io), C15 LA10_N (io), C18 LA14_P (io), C19 LA14_N (io), C22 LA18_P_CC (io), C23 LA18_N_CC (io), C26 LA27_P (io), C27 LA27_N (io), C30 SCL (io), C31 SDA (io), C34 GA0 (io), C35 12P0V_1 (io), C37 12P0V_2 (io), C39 3P3V_1 (io)
part B pins: D1 PG_C2M (io), D4 GBTCLK0_M2C_P (io), D5 GBTCLK0_M2C_N (io), D8 LA01_P_CC (io), D9 LA01_N_CC (io), D11 LA05_P (io), D12 LA05_N (io), D14 LA09_P (io), D15 LA09_N (io), D17 LA13_P (io), D18 LA13_N (io), D20 LA17_P_CC (io), D21 LA17_N_CC (io), D23 LA23_P (io), D24 LA23_N (io), D26 LA26_P (io), D27 LA26_N (io), D29 TCK (io), D30 TDI (io), D31 TDO (io), D32 3P3VAUX (io), D33 TMS (io), D34 TRST_L (io), D35 GA1 (io), D36 3P3V_2 (io), D38 3P3V_3 (io), D40 3P3V_4 (io)
part C pins: G2 CLK1_M2C_P (io), G3 CLK1_M2C_N (io), G6 LA00_P_CC (io), G7 LA00_N_CC (io), G9 LA03_P (io), G10 LA03_N (io), G12 LA08_P (io), G13 LA08_N (io), G15 LA12_P (io), G16 LA12_N (io), G18 LA16_P (io), G19 LA16_N (io), G21 LA20_P (io), G22 LA20_N (io), G24 LA22_P (in), G25 LA22_N (io), G27 LA25_P (io), G28 LA25_N (io), G30 LA29_P (io), G31 LA29_N (io), G33 LA31_P (io), G34 LA31_N (io), G36 LA33_P (io), G37 LA33_N (io), G39 VADJ_3 (io)
part D pins: C1 GND_41 (io), C4 GND_42 (io), C5 GND_43 (io), C8 GND_44 (io), C9 GND_45 (io), C12 GND_46 (io), C13 GND_47 (io), C16 GND_48 (io), C17 GND_49 (io), C20 GND_50 (io), C21 GND_51 (io), C24 GND_52 (io), C25 GND_53 (io), C28 GND_54 (io), C29 GND_55 (io), C32 GND_56 (io), C33 GND_57 (io), C36 GND_58 (io), C38 GND_59 (io), C40 GND_60 (io), D2 GND_61 (io), D3 GND_62 (io), D6 GND_63 (io), D7 GND_64 (io), D10 GND_65 (io), D13 GND_66 (io), D16 GND_67 (io), D19 GND_68 (io), D22 GND_69 (io), D25 GND_70 (io), D28 GND_71 (io), D37 GND_72 (io), D39 GND_73 (io), G1 GND_103 (io), G4 GND_104 (io), G5 GND_105 (io), G8 GND_106 (io), G11 GND_107 (io), G14 GND_108 (io), G17 GND_109 (io), G20 GND_110 (io), G23 GND_111 (io), G26 GND_112 (io), G29 GND_113 (io), G32 GND_114 (io), G35 GND_115 (io), G38 GND_116 (io), G40 GND_117 (io), H3 GND_118 (io), H6 GND_119 (io), H9 GND_120 (io), H12 GND_121 (io), H15 GND_122 (io), H18 GND_123 (io), H21 GND_124 (io), H24 GND_125 (io), H27 GND_126 (io), H30 GND_127 (io), H33 GND_128 (io), H36 GND_129 (io), H39 GND_130 (io)
part E pins: H1 VREF_A_M2C (io), H2 PRSNT_M2C_L (io), H4 CLK0_M2C_P (io), H5 CLK0_M2C_N (io), H7 LA02_P (io), H8 LA02_N (io), H10 LA04_P (io), H11 LA04_N (io), H13 LA07_P (io), H14 LA07_N (io), H16 LA11_P (io), H17 LA11_N (io), H19 LA15_P (io), H20 LA15_N (io), H22 LA19_P (io), H23 LA19_N (io), H25 LA21_P (io), H26 LA21_N (io), H28 LA24_P (io), H29 LA24_N (io), H31 LA28_P (io), H32 LA28_N (io), H34 LA30_P (io), H35 LA30_N (io), H37 LA32_P (io), H38 LA32_N (io), H40 VADJ_4 (io)

## ATX_PERIPHERAL_PWR.1
designator J?, comment SIP4_200_ST  (value not drawn)
ATX POWER JACK; DIST_P/N: A1212-ND; DIST: DIGIKEY; MANF_P/N: 350211-1; MANF: TYCO ELECTRONICS AMP; PKG_TYPE: CON_TYCO_350211; LEVEL: STD; DESC: ATX POWER JACK; VENDOR: TYCO ELECTRONICS AMP; PACKAGE: SIP4_200_ST; PART_NUMBER: 350211-1; DEVICE: SIP4_200_ST
footprint CON_TYCO_350211
pins: 1 12V (io), 2 COM_A (io), 3 COM_B (io), 4 5V (io)
text: COM

## BAS40-04.1
designator D?, comment value XX  (hidden comment: BAS40-04)
DEVICE: BAS40-04
pins: 1 (out), 2 (out), 3 (in)

## BATTERY.1
designator B?, comment value XXX  (hidden comment: XX)
DC: 15V; ORDER: DC$; PREFIX: V; PKG_TYPE: BATTERY; DEVICE: XX
footprint BATTERY
pins: 1 P (in), 2 N (in)

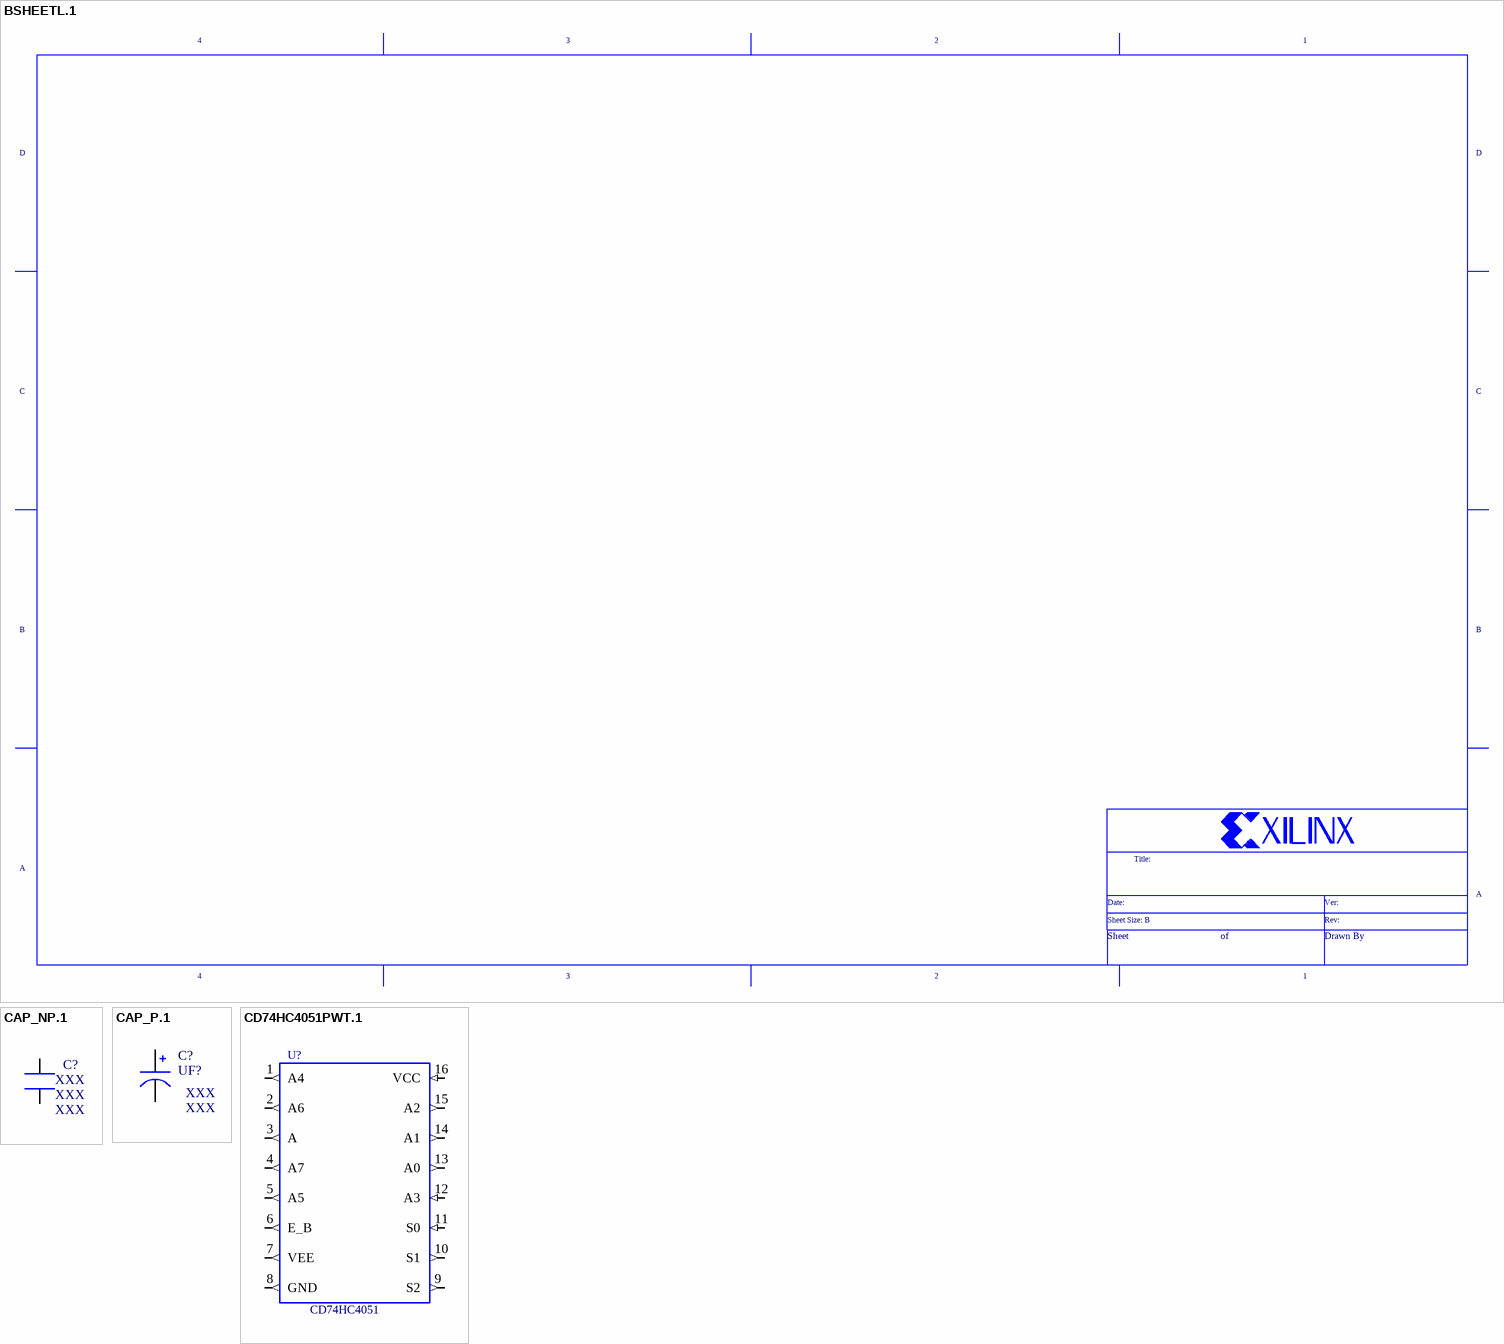
[diagram p17: symbols BSHEETL.1 to CD74HC4051PWT.1]

## BSHEETL.1
designator ?  (graphical)
text: 4; 3; 2; 1; D; C; B; Title:; A; Date:; Ver:; Sheet Size: B; Rev:; Sheet; of; Drawn By

## CAP_NP.1
designator C?, comment value XXX  DIELECTRIC: XXX  (hidden comment: CAP_NP)
LEVEL: STD; DEVICE: CAP_NP; VOLTAGE: XXX
pins: 1 CAP2, 2 CAP1

## CAP_P.1
designator C?, comment value UF?  DIELECTRIC: XXX  (hidden comment: CAPT_A)
LEVEL: STD; DEVICE: CAPT_A; VOLTAGE: XXX
pins: 1, 2

## CD74HC4051PWT.1
designator U?, comment CD74HC4051
DEVICE: CD74HC4051
pins: 1 A4 (out), 2 A6 (out), 3 A (out), 4 A7 (out), 5 A5 (out), 6 E_B (out), 7 VEE (out), 8 GND (out), 9 S2 (out), 10 S1 (out), 11 S0 (in), 12 A3 (in), 13 A0 (out), 14 A1 (out), 15 A2 (out), 16 VCC (in)

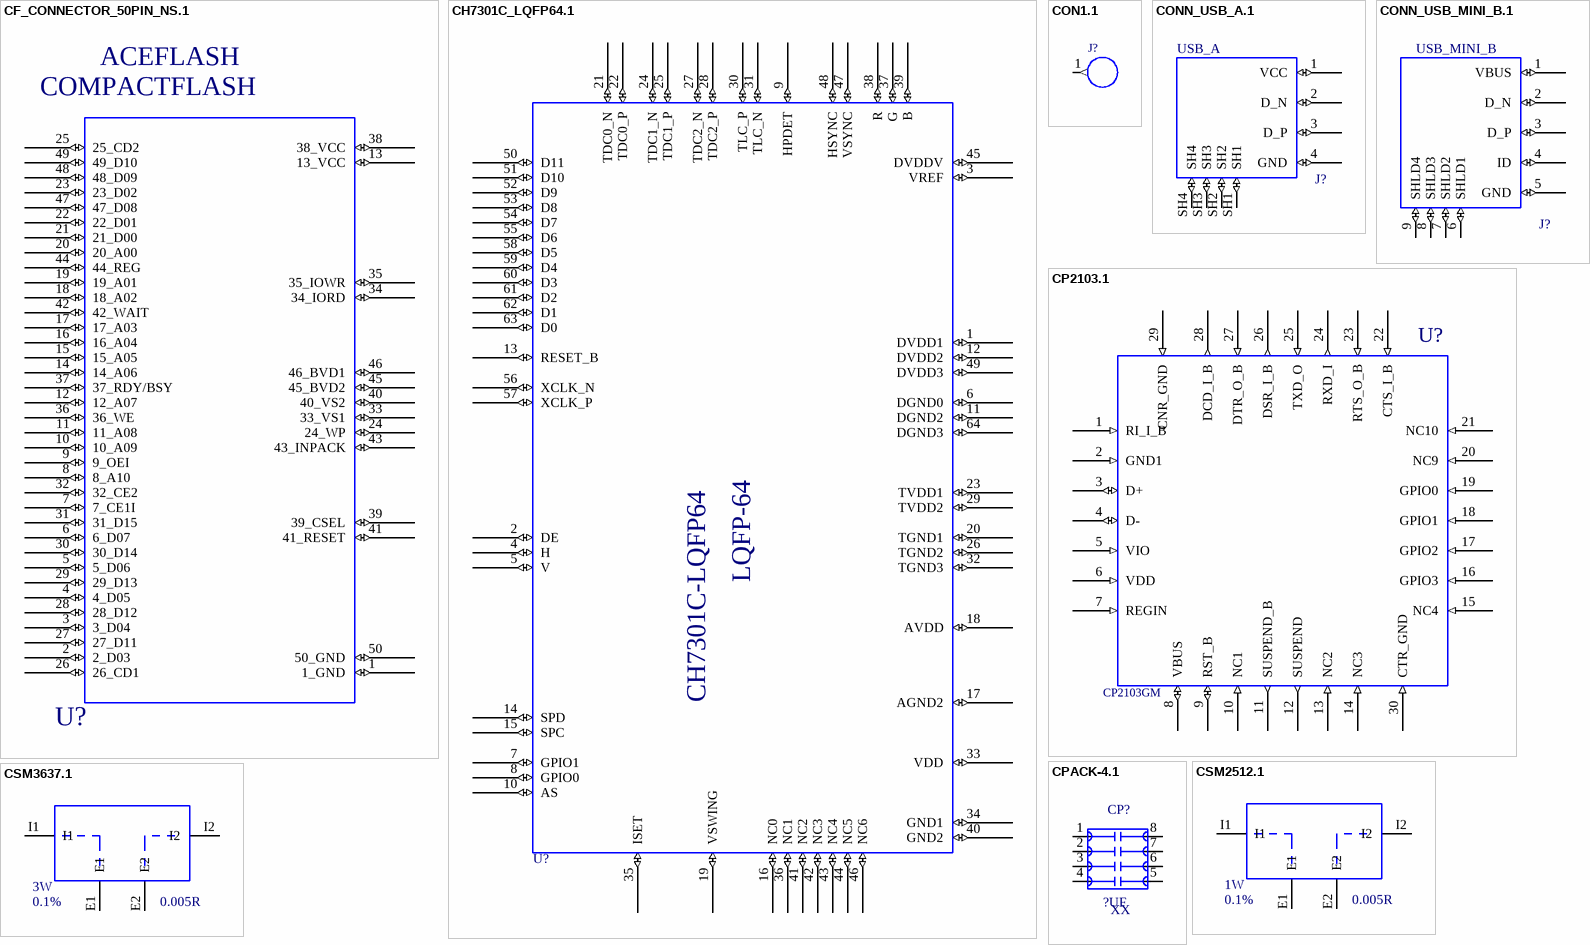
[diagram p18: symbols CF_CONNECTOR_50PIN_NS.1 to CSM3637.1]

## CF_CONNECTOR_50PIN_NS.1
designator U?, comment ACEFLASH  PKG_TYPE: COMPACTFLASH
LEVEL: STD; DEVICE: ACEFLASH
footprint COMPACTFLASH
pins: 1 1_GND (io), 2 2_D03 (io), 3 3_D04 (io), 4 4_D05 (io), 5 5_D06 (io), 6 6_D07 (io), 7 7_CE1I (io), 8 8_A10 (io), 9 9_OEI (io), 10 10_A09 (io), 11 11_A08 (io), 12 12_A07 (io), 13 13_VCC (io), 14 14_A06 (io), 15 15_A05 (io), 16 16_A04 (io), 17 17_A03 (io), 18 18_A02 (io), 19 19_A01 (io), 20 20_A00 (io), 21 21_D00 (io), 22 22_D01 (io), 23 23_D02 (io), 24 24_WP (io), 25 25_CD2 (io), 26 26_CD1 (io), 27 27_D11 (io), 28 28_D12 (io), 29 29_D13 (io), 30 30_D14 (io), 31 31_D15 (io), 32 32_CE2 (io), 33 33_VS1 (io), 34 34_IORD (io), 35 35_IOWR (io), 36 36_WE (io), 37 37_RDY/BSY (io), 38 38_VCC (io), 39 39_CSEL (io), 40 40_VS2 (io), 41 41_RESET (io), 42 42_WAIT (io), 43 43_INPACK (io), 44 44_REG (io), 45 45_BVD2 (io), 46 46_BVD1 (io), 47 47_D08 (io), 48 48_D09 (io), 49 49_D10 (io), 50 50_GND (io)

## CH7301C_LQFP64.1
designator U?, comment CH7301C-LQFP64  PKG_TYPE: LQFP-64
LEVEL: STD; DEVICE: CH7301C-LQFP64
footprint LQFP-64
pins: 1 DVDD1 (io), 2 DE (io), 3 VREF (io), 4 H (io), 5 V (io), 6 DGND0 (io), 7 GPIO1 (io), 8 GPIO0 (io), 9 HPDET (io), 10 AS (io), 11 DGND2 (io), 12 DVDD2 (io), 13 RESET_B (io), 14 SPD (io), 15 SPC (io), 16 NC0 (io), 17 AGND2 (io), 18 AVDD (io), 19 VSWING (io), 20 TGND1 (io), 21 TDC0_N (io), 22 TDC0_P (io), 23 TVDD1 (io), 24 TDC1_N (io), 25 TDC1_P (io), 26 TGND2 (io), 27 TDC2_N (io), 28 TDC2_P (io), 29 TVDD2 (io), 30 TLC_P (io), 31 TLC_N (io), 32 TGND3 (io), 33 VDD (io), 34 GND1 (io), 35 ISET (io), 36 NC1 (io), 37 G (io), 38 R (io), 39 B (io), 40 GND2 (io), 41 NC2 (io), 42 NC3 (io), 43 NC4 (io), 44 NC5 (io), 45 DVDDV (io), 46 NC6 (io), 47 VSYNC (io), 48 HSYNC (io), 49 DVDD3 (io), 50 D11 (io), 51 D10 (io), 52 D9 (io), 53 D8 (io), 54 D7 (io), 55 D6 (io), 56 XCLK_N (io), 57 XCLK_P (io), 58 D5 (io), 59 D4 (io), 60 D3 (io), 61 D2 (io), 62 D1 (io), 63 D0 (io), 64 DGND3 (io)

## CON1.1
designator J?, comment CON1  (value not drawn)
DEVICE: CON1
pins: 1 (out)

## CONN_USB_A.1
designator J?, comment USB_A
PKG_TYPE: CONN_USB_A; LEVEL: STD; PART_SPEC: USB_A; DEVICE: USB_A
footprint CONN_USB_A
pins: 1 VCC (io), 2 D_N (io), 3 D_P (io), 4 GND (io), SH1 (io), SH2 (io), SH3 (io), SH4 (io)

## CONN_USB_MINI_B.1
designator J?, comment USB_MINI_B
MANF: HIROSE; MANF_P/N: UX60-MB-5ST; PKG_TYPE: CONN_USB_B; LEVEL: STD; DEVICE: USB_MINI_B
footprint CONN_USB_B
pins: 1 VBUS (io), 2 D_N (io), 3 D_P (io), 4 ID (io), 5 GND (io), 6 SHLD1 (io), 7 SHLD2 (io), 8 SHLD3 (io), 9 SHLD4 (io)

## CP2103.1
designator U?, comment CP2103GM
LEVEL: STD; PKG_TYPE: MLP-28; DEVICE: CP2103GM
footprint MLP-28
pins: 1 RI_I_B (in), 2 GND1 (in), 3 D+ (io), 4 D- (io), 5 VIO (in), 6 VDD (in), 7 REGIN (in), 8 VBUS (io), 9 RST_B (io), 10 NC1 (in), 11 SUSPEND_B (out), 12 SUSPEND (out), 13 NC2 (in), 14 NC3 (in), 15 NC4 (in), 16 GPIO3 (in), 17 GPIO2 (in), 18 GPIO1 (in), 19 GPIO0 (in), 20 NC9 (in), 21 NC10 (in), 22 CTS_I_B (in), 23 RTS_O_B (in), 24 RXD_I (out), 25 TXD_O (in), 26 DSR_I_B (out), 27 DTR_O_B (in), 28 DCD_I_B (out), 29 CNR_GND (in), 30 CTR_GND (in)

## CPACK-4.1
designator CP?, comment value ?UF  VOLTAGE: XX  (hidden comment: 10PF_0805-A4)
PART_SPEC: CPACK; DEVICE: 10PF_0805-A4; PKG_TYPE: CPACK
footprint CPACK
pins: 1, 2, 3, 4, 5, 6, 7, 8

## CSM2512.1
designator R?, comment value 0.005R  POWER: 1W  TOLERANCE: 0.1%  (hidden comment: RES_CUR_SENSE_2512_SMT)
MANF_P/N: Y14870R00500B09R; LEVEL: STD; DATASHEET: \\FENPHEN\AFX\AFX\BOARD_PROJECTS\LIBRARY\DATASHEETS\RESISTOR\CSM.PDF; DEVICE: RES_CUR_SENSE_2512_SMT; PKG_TYPE: 2512_SMT
footprint 2512_SMT
pins: E1, E2, I1, I2

## CSM3637.1
designator R?, comment value 0.005R  POWER: 3W  TOLERANCE: 0.1%  (hidden comment: RES_CUR_SENSE_3637_SMT)
MANF_P/N: Y14880R00500B09R; LEVEL: STD; DATASHEET: \\FENPHEN\AFX\AFX\BOARD_PROJECTS\LIBRARY\DATASHEETS\RESISTOR\CSM.PDF; DEVICE: RES_CUR_SENSE_3637_SMT; PKG_TYPE: 3637_SMT
footprint 3637_SMT
pins: E1, E2, I1, I2

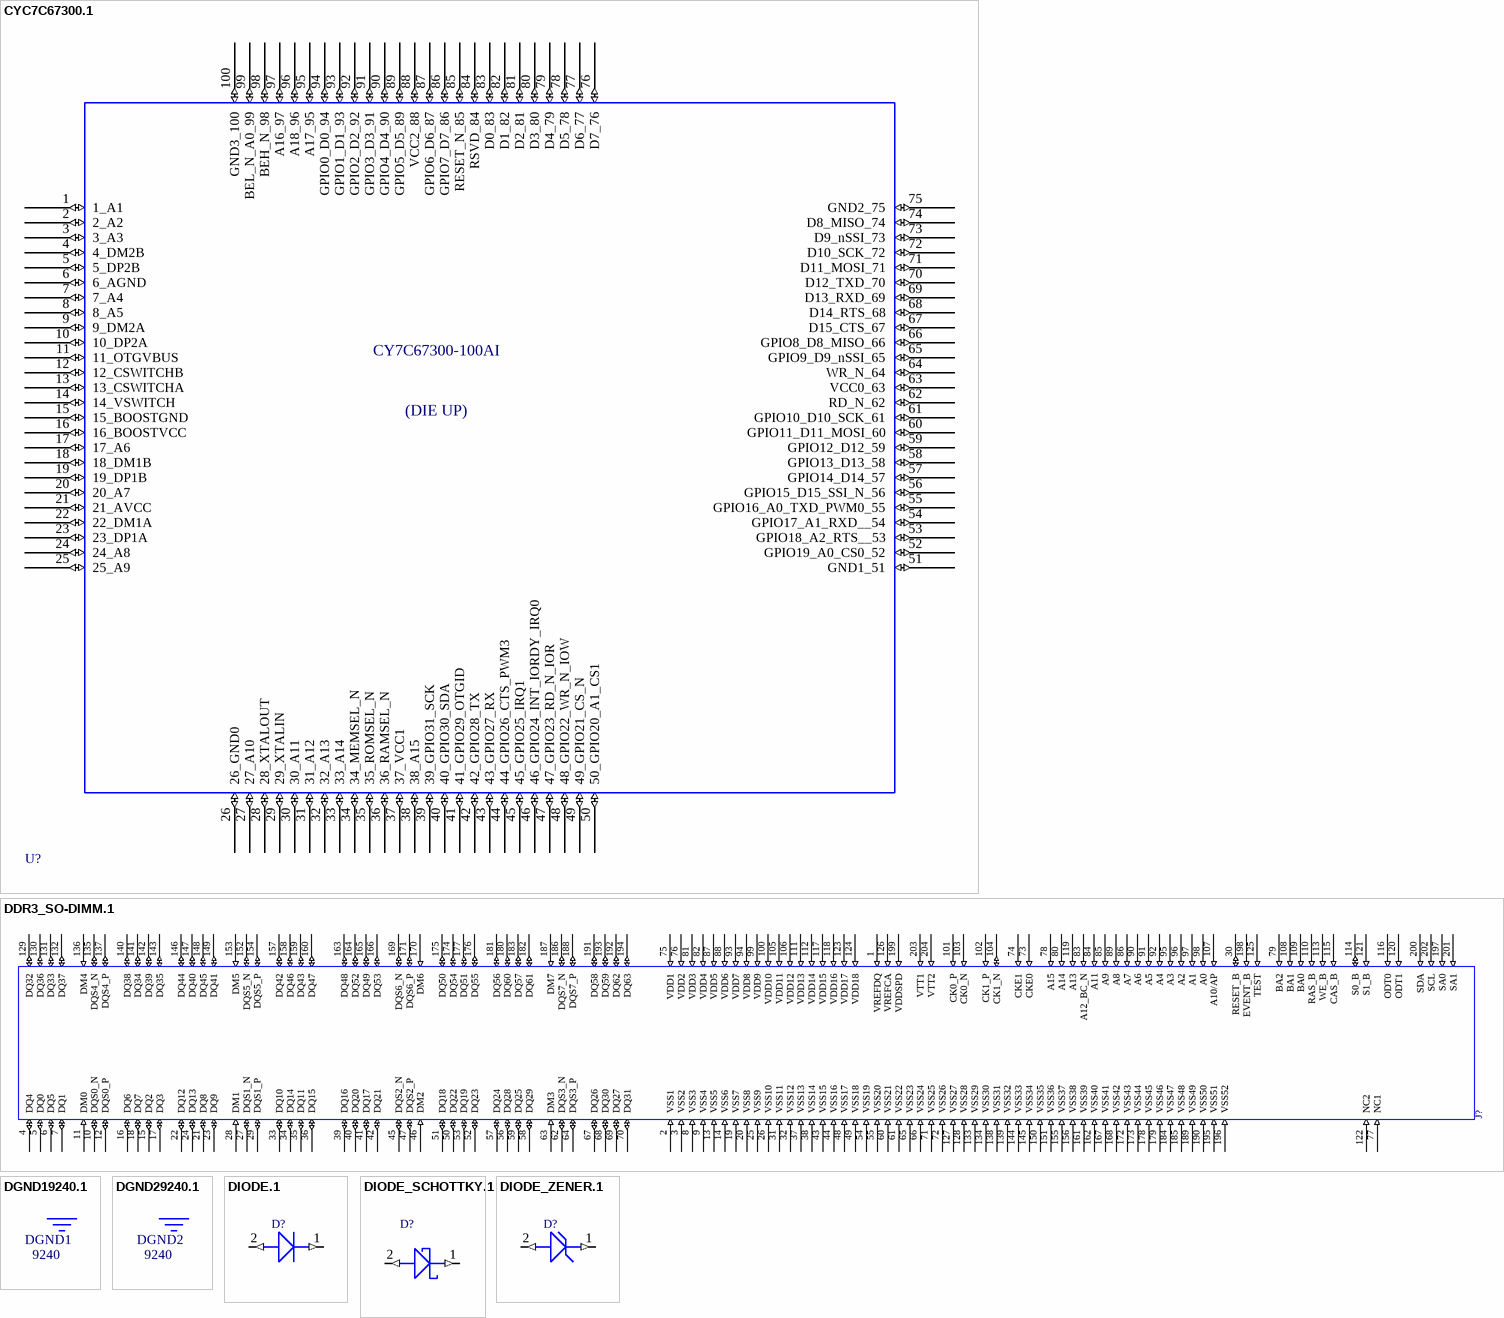
[diagram p19: symbols CYC7C67300.1 to DIODE_ZENER.1]